# Altium integrated library Lattice ispXPGA.IntLib: 128 symbols (part 7 of 40)
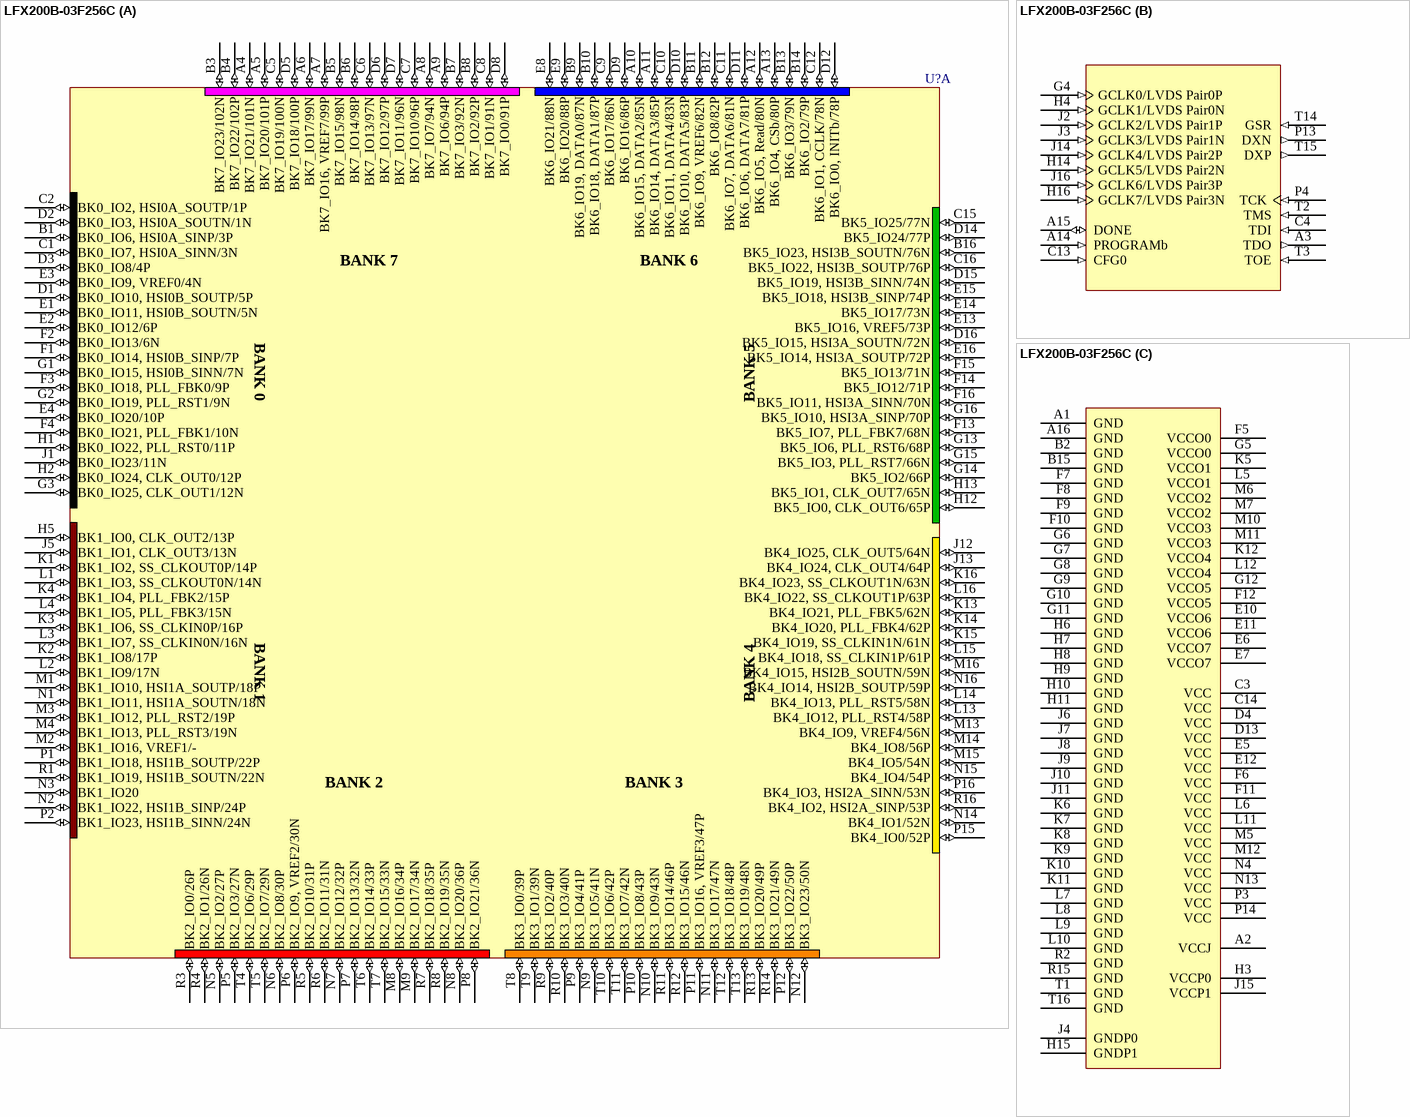
[diagram p405: symbol LFX200B-03F256C]

## LFX200B-03F256C
designator U?
LFX200 Non-Volatile Infinitely-Reconfigurable: 2.5/3.3V FPGA, 160 User I/Os, 256-Ball fpBGA, Speed Grade 3, Commercial Grade; Note: All GND pins must be electrically connected at the board level.; Note: Pins M2 and N3 are not available for differential pairs.; Published: 17-Dec-2003; LatestRevisionDate: 13-Apr-2006; LatestRevisionNote: IPC-7351 Footprint Added.; DatasheetVersion: xpga_09, Jul-2004; PackageVersion: pkg_32, Aug-2005; PackageReference: fpBGA256; Publisher: Altium Limited; PackageDescription: 256-Ball Fine Pitch Ball Grid Array (fpBGA256); Code_IPC: BGA100P16X16-256; ComponentLink1Description: Manufacturer Link; ComponentLink1URL: http://www.latticesemi.com/products/fpga/xpga/index.cfm; ComponentLink2Description: Datasheet; ComponentLink2URL: http://www.latticesemi.com/account/_download.cfm?AMID=5010; ComponentLink3Description: Lattice Login; ComponentLink3URL: http://www.latticesemi.com/account/login.cfm
footprint fpBGA256 (BGA, 256-Leads, Body 17x17mm, Pitch 1mm)
3D model LFX200-fpBGA256 (256-Ball Fine Pitch Ball Grid Array (fpBGA256))
part A pins: A4 BK7_IO21/101N (io), A5 BK7_IO20/101P (io), A6 BK7_IO17/99N (io), A7 BK7_IO16, VREF7/99P (io), A8 BK7_IO7/94N (io), A9 BK7_IO6/94P (io), A10 BK6_IO15, DATA2/85N (io), A11 BK6_IO14, DATA3/85P (io), A12 BK6_IO5, Read/80N (io), A13 BK6_IO4, CSb/80P (io), B1 BK0_IO6, HSI0A_SINP/3P (io), B3 BK7_IO23/102N (io), B4 BK7_IO22/102P (io), B5 BK7_IO15/98N (io), B6 BK7_IO14/98P (io), B7 BK7_IO3/92N (io), B8 BK7_IO2/92P (io), B9 BK6_IO19, DATA0/87N (io), B10 BK6_IO18, DATA1/87P (io), B11 BK6_IO9, VREF6/82N (io), B12 BK6_IO8/82P (io), B13 BK6_IO3/79N (io), B14 BK6_IO2/79P (io), B16 BK5_IO23, HSI3B_SOUTN/76N (io), C1 BK0_IO7, HSI0A_SINN/3N (io), C2 BK0_IO2, HSI0A_SOUTP/1P (io), C5 BK7_IO19/100N (io), C6 BK7_IO13/97N (io), C7 BK7_IO10/96P (io), C8 BK7_IO1/91N (io), C9 BK6_IO17/86N (io), C10 BK6_IO11, DATA4/83N (io), C11 BK6_IO7, DATA6/81N (io), C12 BK6_IO1, CCLK/78N (io), C15 BK5_IO25/77N (io), C16 BK5_IO22, HSI3B_SOUTP/76P (io), D1 BK0_IO10, HSI0B_SOUTP/5P (io), D2 BK0_IO3, HSI0A_SOUTN/1N (io), D3 BK0_IO8/4P (io), D5 BK7_IO18/100P (io), D6 BK7_IO12/97P (io), D7 BK7_IO11/96N (io), D8 BK7_IO0/91P (io), D9 BK6_IO16/86P (io), D10 BK6_IO10, DATA5/83P (io), D11 BK6_IO6, DATA7/81P (io), D12 BK6_IO0, INITb/78P (io), D14 BK5_IO24/77P (io), D15 BK5_IO19, HSI3B_SINN/74N (io), D16 BK5_IO15, HSI3A_SOUTN/72N (io), E1 BK0_IO11, HSI0B_SOUTN/5N (io), E2 BK0_IO12/6P (io), E3 BK0_IO9, VREF0/4N (io), E4 BK0_IO20/10P (io), E8 BK6_IO21/88N (io), E9 BK6_IO20/88P (io), E13 BK5_IO16, VREF5/73P (io), E14 BK5_IO17/73N (io), E15 BK5_IO18, HSI3B_SINP/74P (io), E16 BK5_IO14, HSI3A_SOUTP/72P (io), F1 BK0_IO14, HSI0B_SINP/7P (io), F2 BK0_IO13/6N (io), F3 BK0_IO18, PLL_FBK0/9P (io), F4 BK0_IO21, PLL_FBK1/10N (io), F13 BK5_IO7, PLL_FBK7/68N (io), F14 BK5_IO12/71P (io), F15 BK5_IO13/71N (io), F16 BK5_IO11, HSI3A_SINN/70N (io), G1 BK0_IO15, HSI0B_SINN/7N (io), G2 BK0_IO19, PLL_RST1/9N (io), G3 BK0_IO25, CLK_OUT1/12N (io), G13 BK5_IO6, PLL_RST6/68P (io), G14 BK5_IO2/66P (io), G15 BK5_IO3, PLL_RST7/66N (io), G16 BK5_IO10, HSI3A_SINP/70P (io), H1 BK0_IO22, PLL_RST0/11P (io), H2 BK0_IO24, CLK_OUT0/12P (io), H5 BK1_IO0, CLK_OUT2/13P (io), H12 BK5_IO0, CLK_OUT6/65P (io), H13 BK5_IO1, CLK_OUT7/65N (io), J1 BK0_IO23/11N (io), J5 BK1_IO1, CLK_OUT3/13N (io), J12 BK4_IO25, CLK_OUT5/64N (io), J13 BK4_IO24, CLK_OUT4/64P (io), K1 BK1_IO2, SS_CLKOUT0P/14P (io), K2 BK1_IO8/17P (io), K3 BK1_IO6, SS_CLKIN0P/16P (io), K4 BK1_IO4, PLL_FBK2/15P (io), K13 BK4_IO21, PLL_FBK5/62N (io), K14 BK4_IO20, PLL_FBK4/62P (io), K15 BK4_IO19, SS_CLKIN1N/61N (io), K16 BK4_IO23, SS_CLKOUT1N/63N (io), L1 BK1_IO3, SS_CLKOUT0N/14N (io), L2 BK1_IO9/17N (io), L3 BK1_IO7, SS_CLKIN0N/16N (io), L4 BK1_IO5, PLL_FBK3/15N (io), L13 BK4_IO12, PLL_RST4/58P (io), L14 BK4_IO13, PLL_RST5/58N (io), L15 BK4_IO18, SS_CLKIN1P/61P (io), L16 BK4_IO22, SS_CLKOUT1P/63P (io), M1 BK1_IO10, HSI1A_SOUTP/18P (io), M2 BK1_IO16, VREF1/- (io), M3 BK1_IO12, PLL_RST2/19P (io), M4 BK1_IO13, PLL_RST3/19N (io), M8 BK2_IO16/34P (io), M9 BK2_IO17/34N (io), M13 BK4_IO9, VREF4/56N (io), M14 BK4_IO8/56P (io), M15 BK4_IO5/54N (io), M16 BK4_IO15, HSI2B_SOUTN/59N (io), N1 BK1_IO11, HSI1A_SOUTN/18N (io), N2 BK1_IO22, HSI1B_SINP/24P (io), N3 BK1_IO20 (io), N5 BK2_IO2/27P (io), N6 BK2_IO8/30P (io), N7 BK2_IO12/32P (io), N8 BK2_IO20/36P (io), N9 BK3_IO5/41N (io), N10 BK3_IO9/43N (io), N11 BK3_IO17/47N (io), N12 BK3_IO23/50N (io), N14 BK4_IO1/52N (io), N15 BK4_IO4/54P (io), N16 BK4_IO14, HSI2B_SOUTP/59P (io), P1 BK1_IO18, HSI1B_SOUTP/22P (io), P2 BK1_IO23, HSI1B_SINN/24N (io), P5 BK2_IO3/27N (io), P6 BK2_IO9, VREF2/30N (io), P7 BK2_IO13/32N (io), P8 BK2_IO21/36N (io), P9 BK3_IO4/41P (io), P10 BK3_IO8/43P (io), P11 BK3_IO16, VREF3/47P (io), P12 BK3_IO22/50P (io), P15 BK4_IO0/52P (io), P16 BK4_IO3, HSI2A_SINN/53N (io), R1 BK1_IO19, HSI1B_SOUTN/22N (io), R3 BK2_IO0/26P (io), R4 BK2_IO1/26N (io), R5 BK2_IO10/31P (io), R6 BK2_IO11/31N (io), R7 BK2_IO18/35P (io), R8 BK2_IO19/35N (io), R9 BK3_IO2/40P (io), R10 BK3_IO3/40N (io), R11 BK3_IO14/46P (io), R12 BK3_IO15/46N (io), R13 BK3_IO20/49P (io), R14 BK3_IO21/49N (io), R16 BK4_IO2, HSI2A_SINP/53P (io), T4 BK2_IO6/29P (io), T5 BK2_IO7/29N (io), T6 BK2_IO14/33P (io), T7 BK2_IO15/33N (io), T8 BK3_IO0/39P (io), T9 BK3_IO1/39N (io), T10 BK3_IO6/42P (io), T11 BK3_IO7/42N (io), T12 BK3_IO18/48P (io), T13 BK3_IO19/48N (io)
part B pins: A3 TDO (out), A14 PROGRAMb (in), A15 DONE (io), C4 TDI (in), C13 CFG0 (in), G4 GCLK0/LVDS Pair0P (in), H4 GCLK1/LVDS Pair0N (in), H14 GCLK5/LVDS Pair2N (in), H16 GCLK7/LVDS Pair3N (in), J2 GCLK2/LVDS Pair1P (in), J3 GCLK3/LVDS Pair1N (in), J14 GCLK4/LVDS Pair2P (in), J16 GCLK6/LVDS Pair3P (in), P4 TCK (in), P13 DXN (out), T2 TMS (in), T3 TOE (in), T14 GSR (in), T15 DXP (out)
part C pins: A1 GND (power), A2 VCCJ (power), A16 GND (power), B2 GND (power), B15 GND (power), C3 VCC (power), C14 VCC (power), D4 VCC (power), D13 VCC (power), E5 VCC (power), E6 VCCO7 (power), E7 VCCO7 (power), E10 VCCO6 (power), E11 VCCO6 (power), E12 VCC (power), F5 VCCO0 (power), F6 VCC (power), F7 GND (power), F8 GND (power), F9 GND (power), F10 GND (power), F11 VCC (power), F12 VCCO5 (power), G5 VCCO0 (power), G6 GND (power), G7 GND (power), G8 GND (power), G9 GND (power), G10 GND (power), G11 GND (power), G12 VCCO5 (power), H3 VCCP0 (power), H6 GND (power), H7 GND (power), H8 GND (power), H9 GND (power), H10 GND (power), H11 GND (power), H15 GNDP1 (power), J4 GNDP0 (power), J6 GND (power), J7 GND (power), J8 GND (power), J9 GND (power), J10 GND (power), J11 GND (power), J15 VCCP1 (power), K5 VCCO1 (power), K6 GND (power), K7 GND (power), K8 GND (power), K9 GND (power), K10 GND (power), K11 GND (power), K12 VCCO4 (power), L5 VCCO1 (power), L6 VCC (power), L7 GND (power), L8 GND (power), L9 GND (power), L10 GND (power), L11 VCC (power), L12 VCCO4 (power), M5 VCC (power), M6 VCCO2 (power), M7 VCCO2 (power), M10 VCCO3 (power), M11 VCCO3 (power), M12 VCC (power), N4 VCC (power), N13 VCC (power), P3 VCC (power), P14 VCC (power), R2 GND (power), R15 GND (power), T1 GND (power), T16 GND (power)
part A text: BANK 7; BANK 6; BANK 0; BANK 5; BANK 1; BANK 4; BANK 2; BANK 3

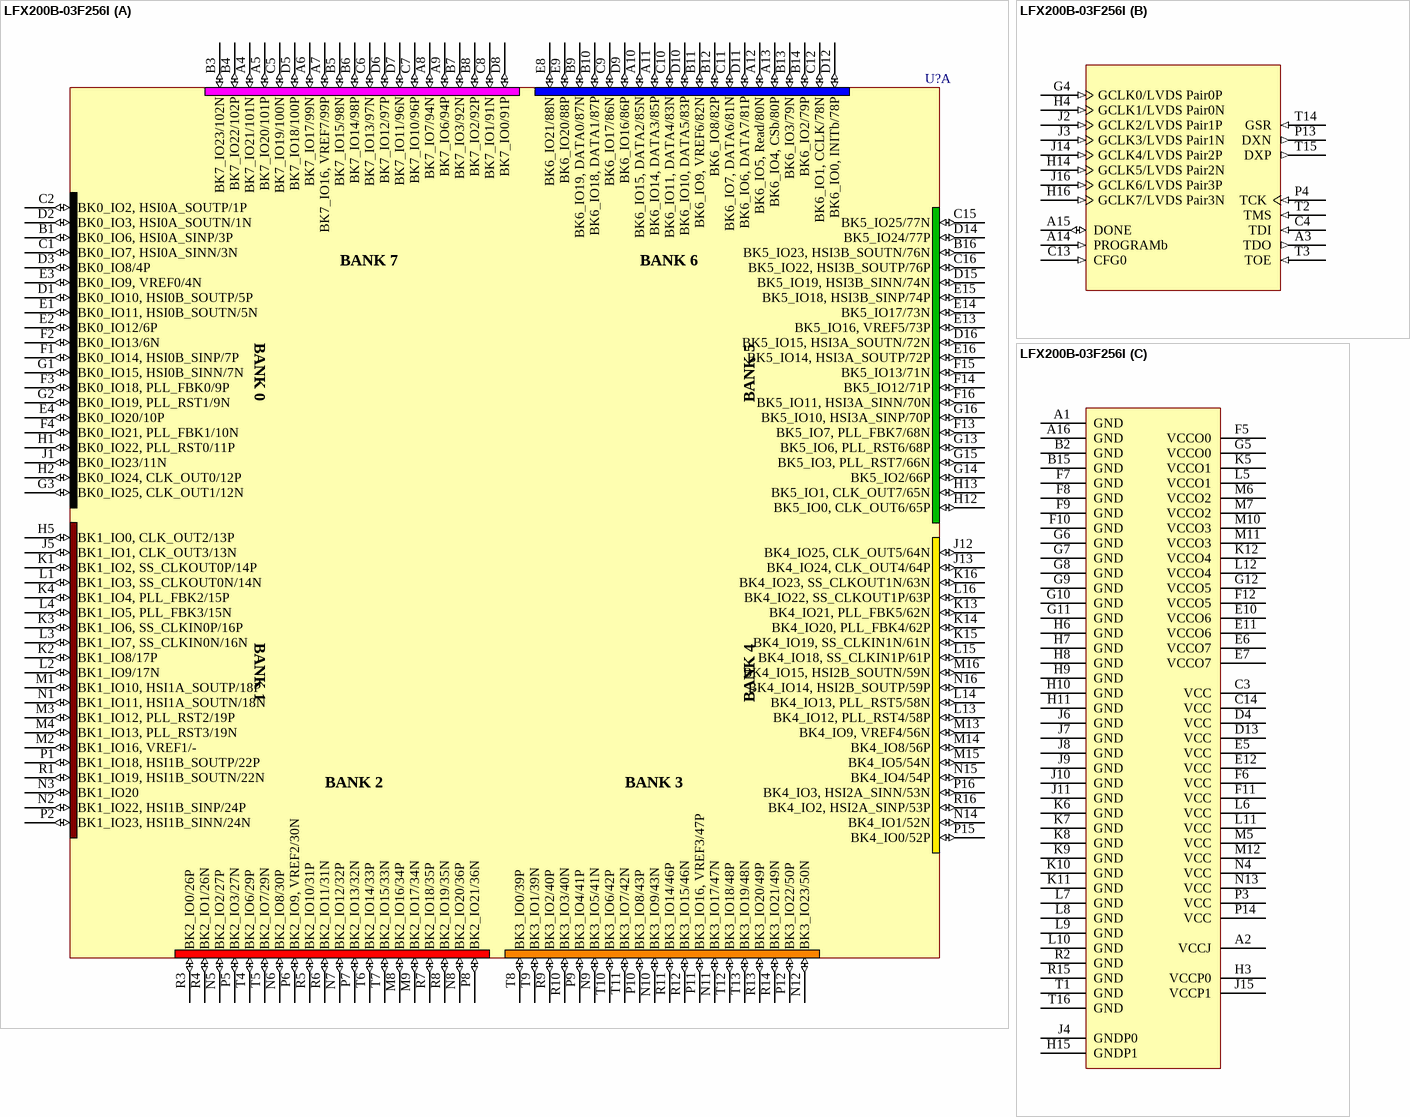
[diagram p65: symbol LFX200B-03F256I]

## LFX200B-03F256I
designator U?
LFX200 Non-Volatile Infinitely-Reconfigurable: 2.5/3.3V FPGA, 160 User I/Os, 256-Ball fpBGA, Speed Grade 3, Industrial Grade; Note: All GND pins must be electrically connected at the board level.; Note: Pins M2 and N3 are not available for differential pairs.; Published: 17-Dec-2003; LatestRevisionDate: 13-Apr-2006; LatestRevisionNote: IPC-7351 Footprint Added.; DatasheetVersion: xpga_07, Sep-2003; PackageVersion: pkg_32, Aug-2005; PackageReference: fpBGA256; Publisher: Altium Limited; PackageDescription: 256-Ball Fine Pitch Ball Grid Array (fpBGA256); Code_IPC: BGA100P16X16-256; ComponentLink1Description: Manufacturer Link; ComponentLink1URL: http://www.latticesemi.com/products/fpga/xpga/index.cfm; ComponentLink2Description: Datasheet; ComponentLink2URL: http://www.latticesemi.com/account/_download.cfm?AMID=5010; ComponentLink3Description: Lattice Login; ComponentLink3URL: http://www.latticesemi.com/account/login.cfm
footprint fpBGA256 (BGA, 256-Leads, Body 17x17mm, Pitch 1mm)
3D model LFX200-fpBGA256 (256-Ball Fine Pitch Ball Grid Array (fpBGA256))
part A pins: A4 BK7_IO21/101N (io), A5 BK7_IO20/101P (io), A6 BK7_IO17/99N (io), A7 BK7_IO16, VREF7/99P (io), A8 BK7_IO7/94N (io), A9 BK7_IO6/94P (io), A10 BK6_IO15, DATA2/85N (io), A11 BK6_IO14, DATA3/85P (io), A12 BK6_IO5, Read/80N (io), A13 BK6_IO4, CSb/80P (io), B1 BK0_IO6, HSI0A_SINP/3P (io), B3 BK7_IO23/102N (io), B4 BK7_IO22/102P (io), B5 BK7_IO15/98N (io), B6 BK7_IO14/98P (io), B7 BK7_IO3/92N (io), B8 BK7_IO2/92P (io), B9 BK6_IO19, DATA0/87N (io), B10 BK6_IO18, DATA1/87P (io), B11 BK6_IO9, VREF6/82N (io), B12 BK6_IO8/82P (io), B13 BK6_IO3/79N (io), B14 BK6_IO2/79P (io), B16 BK5_IO23, HSI3B_SOUTN/76N (io), C1 BK0_IO7, HSI0A_SINN/3N (io), C2 BK0_IO2, HSI0A_SOUTP/1P (io), C5 BK7_IO19/100N (io), C6 BK7_IO13/97N (io), C7 BK7_IO10/96P (io), C8 BK7_IO1/91N (io), C9 BK6_IO17/86N (io), C10 BK6_IO11, DATA4/83N (io), C11 BK6_IO7, DATA6/81N (io), C12 BK6_IO1, CCLK/78N (io), C15 BK5_IO25/77N (io), C16 BK5_IO22, HSI3B_SOUTP/76P (io), D1 BK0_IO10, HSI0B_SOUTP/5P (io), D2 BK0_IO3, HSI0A_SOUTN/1N (io), D3 BK0_IO8/4P (io), D5 BK7_IO18/100P (io), D6 BK7_IO12/97P (io), D7 BK7_IO11/96N (io), D8 BK7_IO0/91P (io), D9 BK6_IO16/86P (io), D10 BK6_IO10, DATA5/83P (io), D11 BK6_IO6, DATA7/81P (io), D12 BK6_IO0, INITb/78P (io), D14 BK5_IO24/77P (io), D15 BK5_IO19, HSI3B_SINN/74N (io), D16 BK5_IO15, HSI3A_SOUTN/72N (io), E1 BK0_IO11, HSI0B_SOUTN/5N (io), E2 BK0_IO12/6P (io), E3 BK0_IO9, VREF0/4N (io), E4 BK0_IO20/10P (io), E8 BK6_IO21/88N (io), E9 BK6_IO20/88P (io), E13 BK5_IO16, VREF5/73P (io), E14 BK5_IO17/73N (io), E15 BK5_IO18, HSI3B_SINP/74P (io), E16 BK5_IO14, HSI3A_SOUTP/72P (io), F1 BK0_IO14, HSI0B_SINP/7P (io), F2 BK0_IO13/6N (io), F3 BK0_IO18, PLL_FBK0/9P (io), F4 BK0_IO21, PLL_FBK1/10N (io), F13 BK5_IO7, PLL_FBK7/68N (io), F14 BK5_IO12/71P (io), F15 BK5_IO13/71N (io), F16 BK5_IO11, HSI3A_SINN/70N (io), G1 BK0_IO15, HSI0B_SINN/7N (io), G2 BK0_IO19, PLL_RST1/9N (io), G3 BK0_IO25, CLK_OUT1/12N (io), G13 BK5_IO6, PLL_RST6/68P (io), G14 BK5_IO2/66P (io), G15 BK5_IO3, PLL_RST7/66N (io), G16 BK5_IO10, HSI3A_SINP/70P (io), H1 BK0_IO22, PLL_RST0/11P (io), H2 BK0_IO24, CLK_OUT0/12P (io), H5 BK1_IO0, CLK_OUT2/13P (io), H12 BK5_IO0, CLK_OUT6/65P (io), H13 BK5_IO1, CLK_OUT7/65N (io), J1 BK0_IO23/11N (io), J5 BK1_IO1, CLK_OUT3/13N (io), J12 BK4_IO25, CLK_OUT5/64N (io), J13 BK4_IO24, CLK_OUT4/64P (io), K1 BK1_IO2, SS_CLKOUT0P/14P (io), K2 BK1_IO8/17P (io), K3 BK1_IO6, SS_CLKIN0P/16P (io), K4 BK1_IO4, PLL_FBK2/15P (io), K13 BK4_IO21, PLL_FBK5/62N (io), K14 BK4_IO20, PLL_FBK4/62P (io), K15 BK4_IO19, SS_CLKIN1N/61N (io), K16 BK4_IO23, SS_CLKOUT1N/63N (io), L1 BK1_IO3, SS_CLKOUT0N/14N (io), L2 BK1_IO9/17N (io), L3 BK1_IO7, SS_CLKIN0N/16N (io), L4 BK1_IO5, PLL_FBK3/15N (io), L13 BK4_IO12, PLL_RST4/58P (io), L14 BK4_IO13, PLL_RST5/58N (io), L15 BK4_IO18, SS_CLKIN1P/61P (io), L16 BK4_IO22, SS_CLKOUT1P/63P (io), M1 BK1_IO10, HSI1A_SOUTP/18P (io), M2 BK1_IO16, VREF1/- (io), M3 BK1_IO12, PLL_RST2/19P (io), M4 BK1_IO13, PLL_RST3/19N (io), M8 BK2_IO16/34P (io), M9 BK2_IO17/34N (io), M13 BK4_IO9, VREF4/56N (io), M14 BK4_IO8/56P (io), M15 BK4_IO5/54N (io), M16 BK4_IO15, HSI2B_SOUTN/59N (io), N1 BK1_IO11, HSI1A_SOUTN/18N (io), N2 BK1_IO22, HSI1B_SINP/24P (io), N3 BK1_IO20 (io), N5 BK2_IO2/27P (io), N6 BK2_IO8/30P (io), N7 BK2_IO12/32P (io), N8 BK2_IO20/36P (io), N9 BK3_IO5/41N (io), N10 BK3_IO9/43N (io), N11 BK3_IO17/47N (io), N12 BK3_IO23/50N (io), N14 BK4_IO1/52N (io), N15 BK4_IO4/54P (io), N16 BK4_IO14, HSI2B_SOUTP/59P (io), P1 BK1_IO18, HSI1B_SOUTP/22P (io), P2 BK1_IO23, HSI1B_SINN/24N (io), P5 BK2_IO3/27N (io), P6 BK2_IO9, VREF2/30N (io), P7 BK2_IO13/32N (io), P8 BK2_IO21/36N (io), P9 BK3_IO4/41P (io), P10 BK3_IO8/43P (io), P11 BK3_IO16, VREF3/47P (io), P12 BK3_IO22/50P (io), P15 BK4_IO0/52P (io), P16 BK4_IO3, HSI2A_SINN/53N (io), R1 BK1_IO19, HSI1B_SOUTN/22N (io), R3 BK2_IO0/26P (io), R4 BK2_IO1/26N (io), R5 BK2_IO10/31P (io), R6 BK2_IO11/31N (io), R7 BK2_IO18/35P (io), R8 BK2_IO19/35N (io), R9 BK3_IO2/40P (io), R10 BK3_IO3/40N (io), R11 BK3_IO14/46P (io), R12 BK3_IO15/46N (io), R13 BK3_IO20/49P (io), R14 BK3_IO21/49N (io), R16 BK4_IO2, HSI2A_SINP/53P (io), T4 BK2_IO6/29P (io), T5 BK2_IO7/29N (io), T6 BK2_IO14/33P (io), T7 BK2_IO15/33N (io), T8 BK3_IO0/39P (io), T9 BK3_IO1/39N (io), T10 BK3_IO6/42P (io), T11 BK3_IO7/42N (io), T12 BK3_IO18/48P (io), T13 BK3_IO19/48N (io)
part B pins: A3 TDO (out), A14 PROGRAMb (in), A15 DONE (io), C4 TDI (in), C13 CFG0 (in), G4 GCLK0/LVDS Pair0P (in), H4 GCLK1/LVDS Pair0N (in), H14 GCLK5/LVDS Pair2N (in), H16 GCLK7/LVDS Pair3N (in), J2 GCLK2/LVDS Pair1P (in), J3 GCLK3/LVDS Pair1N (in), J14 GCLK4/LVDS Pair2P (in), J16 GCLK6/LVDS Pair3P (in), P4 TCK (in), P13 DXN (out), T2 TMS (in), T3 TOE (in), T14 GSR (in), T15 DXP (out)
part C pins: A1 GND (power), A2 VCCJ (power), A16 GND (power), B2 GND (power), B15 GND (power), C3 VCC (power), C14 VCC (power), D4 VCC (power), D13 VCC (power), E5 VCC (power), E6 VCCO7 (power), E7 VCCO7 (power), E10 VCCO6 (power), E11 VCCO6 (power), E12 VCC (power), F5 VCCO0 (power), F6 VCC (power), F7 GND (power), F8 GND (power), F9 GND (power), F10 GND (power), F11 VCC (power), F12 VCCO5 (power), G5 VCCO0 (power), G6 GND (power), G7 GND (power), G8 GND (power), G9 GND (power), G10 GND (power), G11 GND (power), G12 VCCO5 (power), H3 VCCP0 (power), H6 GND (power), H7 GND (power), H8 GND (power), H9 GND (power), H10 GND (power), H11 GND (power), H15 GNDP1 (power), J4 GNDP0 (power), J6 GND (power), J7 GND (power), J8 GND (power), J9 GND (power), J10 GND (power), J11 GND (power), J15 VCCP1 (power), K5 VCCO1 (power), K6 GND (power), K7 GND (power), K8 GND (power), K9 GND (power), K10 GND (power), K11 GND (power), K12 VCCO4 (power), L5 VCCO1 (power), L6 VCC (power), L7 GND (power), L8 GND (power), L9 GND (power), L10 GND (power), L11 VCC (power), L12 VCCO4 (power), M5 VCC (power), M6 VCCO2 (power), M7 VCCO2 (power), M10 VCCO3 (power), M11 VCCO3 (power), M12 VCC (power), N4 VCC (power), N13 VCC (power), P3 VCC (power), P14 VCC (power), R2 GND (power), R15 GND (power), T1 GND (power), T16 GND (power)
part A text: BANK 7; BANK 6; BANK 0; BANK 5; BANK 1; BANK 4; BANK 2; BANK 3

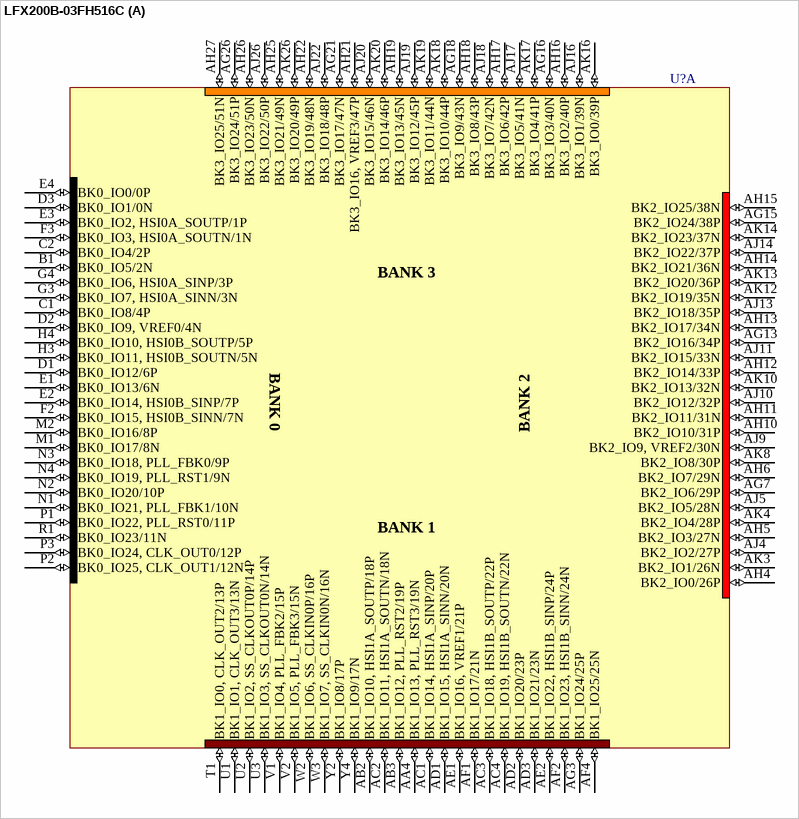
[diagram p66: symbol LFX200B-03FH516C]

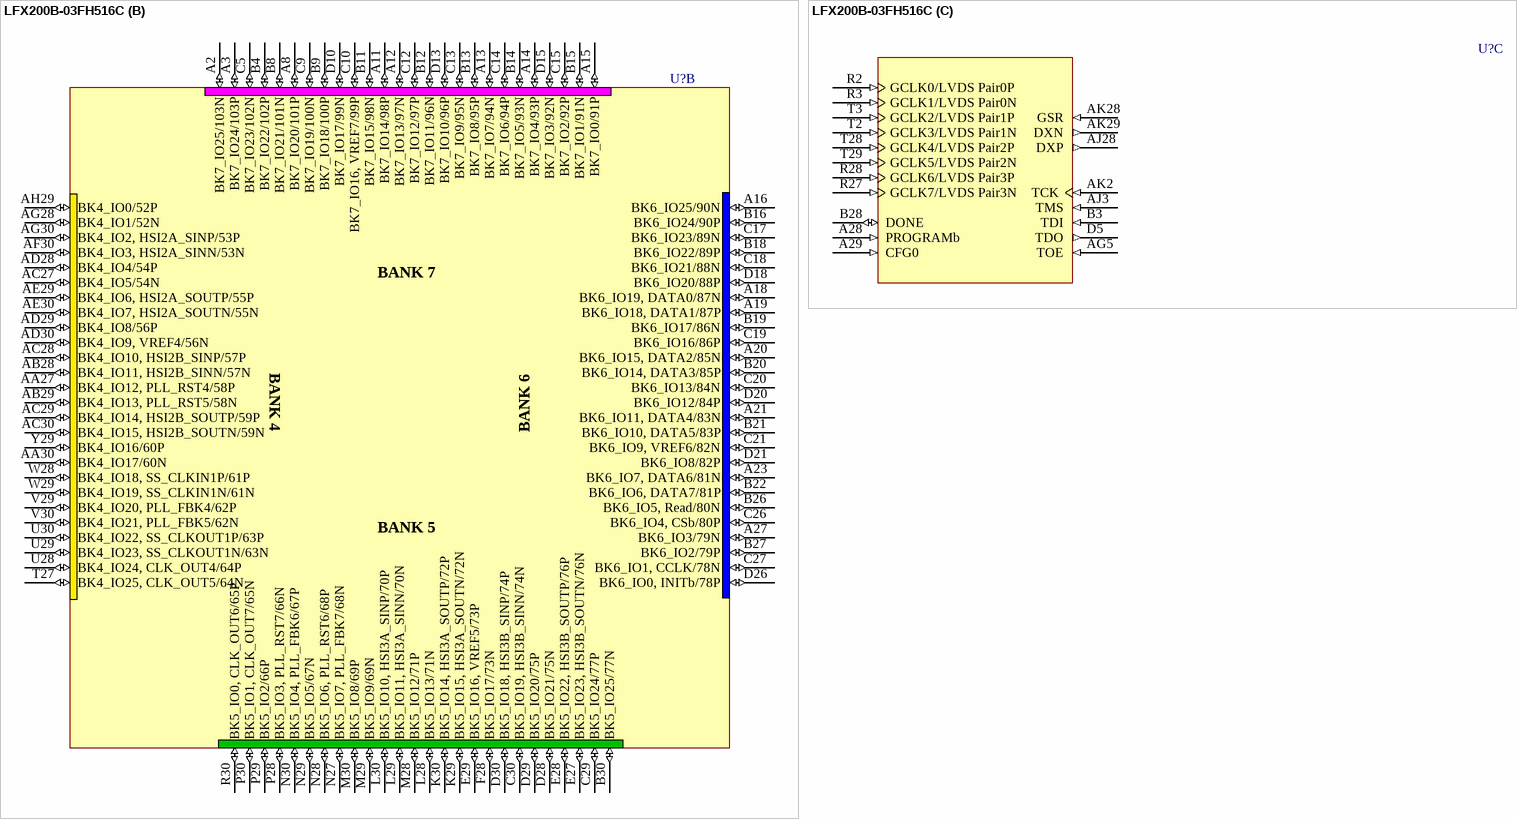
[diagram p67: symbol LFX200B-03FH516C]

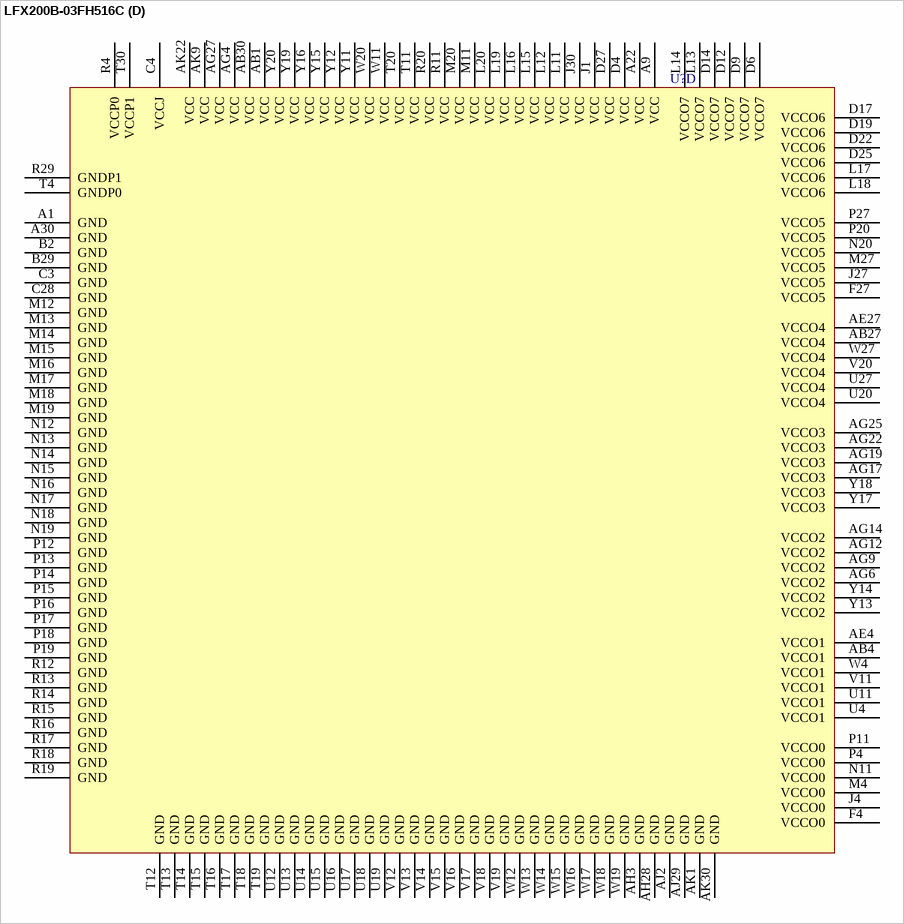
[diagram p68: symbol LFX200B-03FH516C]

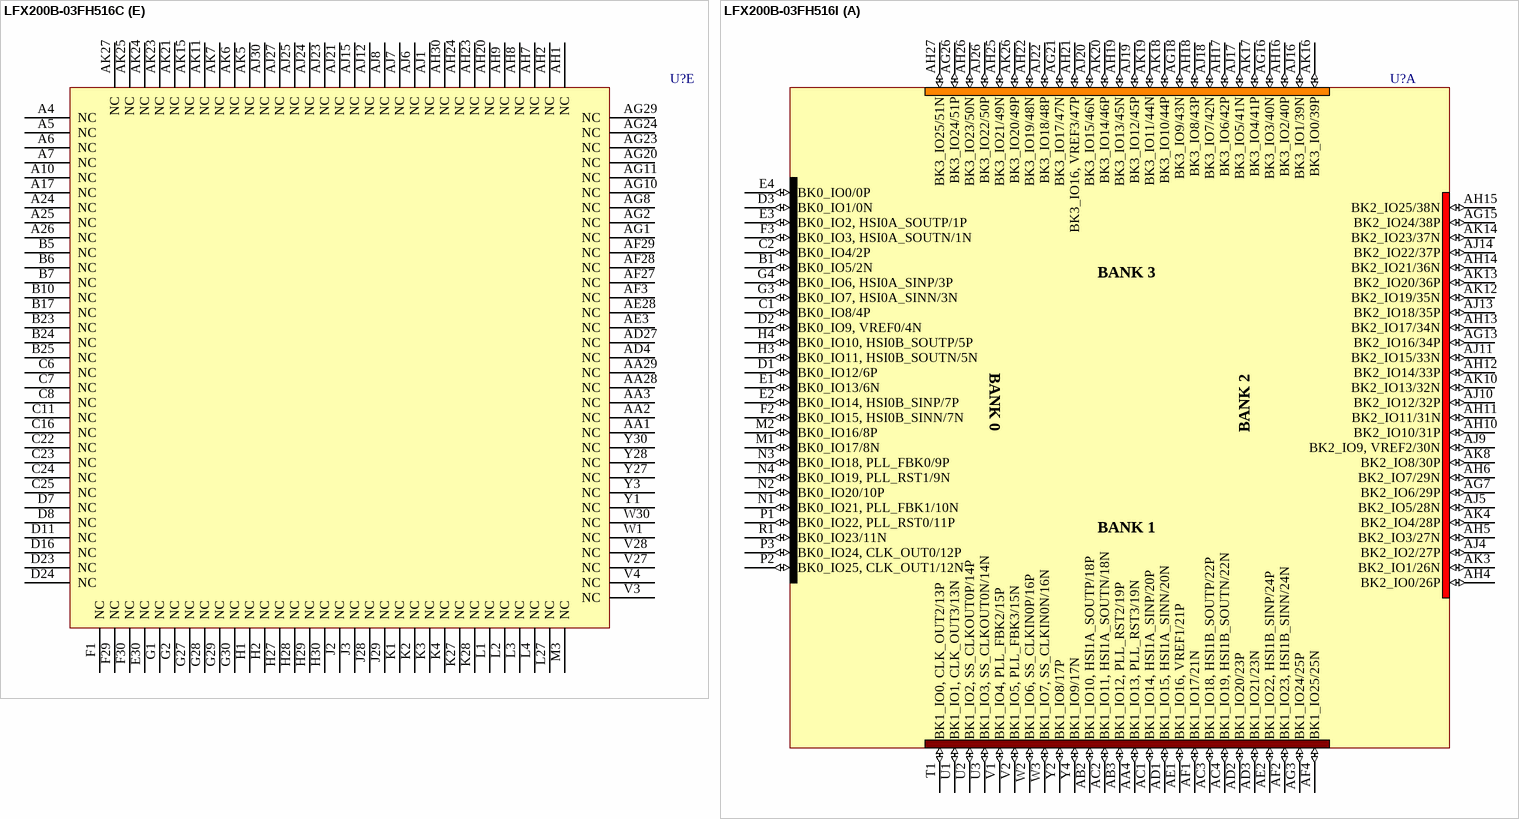
[diagram p69: symbols LFX200B-03FH516C to LFX200B-03FH516I]

## LFX200B-03FH516C
designator U?
LFX200 Non-Volatile Infinitely-Reconfigurable: 2.5/3.3V FPGA, 208 User I/Os, 516-Ball fpBGA, Speed Grade 3, Commercial Grade; Note: All GND pins must be electrically connected at the board level.; DoNotConnect: NC pins to any active signals, VCC or GND.; Published: 17-Dec-2003; LatestRevisionDate: 13-Apr-2006; LatestRevisionNote: IPC-7351 Footprint Added.; DatasheetVersion: xpga_09, Jul-2004; PackageVersion: pkg_32, Aug-2005; PackageReference: fpBGA516; Publisher: Altium Limited; PackageDescription: 516-Ball Fine Pitch Ball Grid Array (fpBGA516); ComponentLink1Description: Manufacturer Link; ComponentLink1URL: http://www.latticesemi.com/products/fpga/xpga/index.cfm; ComponentLink2Description: Datasheet; ComponentLink2URL: http://www.latticesemi.com/account/_download.cfm?AMID=5010; ComponentLink3Description: Lattice Login; ComponentLink3URL: http://www.latticesemi.com/account/login.cfm
footprint fpBGA516 (BGA, 516-Leads, Body 31x31mm, Pitch 1mm)
3D model LFX200-fpBGA516 (516-Ball Fine Pitch Ball Grid Array (fpBGA516))
part A pins: AA4 BK1_IO13, PLL_RST3/19N (io), AB2 BK1_IO10, HSI1A_SOUTP/18P (io), AB3 BK1_IO12, PLL_RST2/19P (io), AC1 BK1_IO14, HSI1A_SINP/20P (io), AC2 BK1_IO11, HSI1A_SOUTN/18N (io), AC3 BK1_IO18, HSI1B_SOUTP/22P (io), AC4 BK1_IO19, HSI1B_SOUTN/22N (io), AD1 BK1_IO15, HSI1A_SINN/20N (io), AD2 BK1_IO20/23P (io), AD3 BK1_IO21/23N (io), AE1 BK1_IO16, VREF1/21P (io), AE2 BK1_IO22, HSI1B_SINP/24P (io), AF1 BK1_IO17/21N (io), AF2 BK1_IO23, HSI1B_SINN/24N (io), AF4 BK1_IO25/25N (io), AG3 BK1_IO24/25P (io), AG7 BK2_IO6/29P (io), AG13 BK2_IO16/34P (io), AG15 BK2_IO24/38P (io), AG16 BK3_IO3/40N (io), AG18 BK3_IO9/43N (io), AG21 BK3_IO17/47N (io), AG26 BK3_IO24/51P (io), AH4 BK2_IO0/26P (io), AH5 BK2_IO3/27N (io), AH6 BK2_IO7/29N (io), AH10 BK2_IO10/31P (io), AH11 BK2_IO11/31N (io), AH12 BK2_IO14/33P (io), AH13 BK2_IO17/34N (io), AH14 BK2_IO21/36N (io), AH15 BK2_IO25/38N (io), AH16 BK3_IO2/40P (io), AH17 BK3_IO6/42P (io), AH18 BK3_IO8/43P (io), AH19 BK3_IO13/45N (io), AH21 BK3_IO16, VREF3/47P (io), AH22 BK3_IO19/48N (io), AH25 BK3_IO21/49N (io), AH26 BK3_IO23/50N (io), AH27 BK3_IO25/51N (io), AJ4 BK2_IO2/27P (io), AJ5 BK2_IO5/28N (io), AJ9 BK2_IO9, VREF2/30N (io), AJ10 BK2_IO12/32P (io), AJ11 BK2_IO15/33N (io), AJ13 BK2_IO18/35P (io), AJ14 BK2_IO22/37P (io), AJ16 BK3_IO1/39N (io), AJ17 BK3_IO5/41N (io), AJ18 BK3_IO7/42N (io), AJ19 BK3_IO12/45P (io), AJ20 BK3_IO15/46N (io), AJ22 BK3_IO18/48P (io), AJ26 BK3_IO22/50P (io), AK3 BK2_IO1/26N (io), AK4 BK2_IO4/28P (io), AK8 BK2_IO8/30P (io), AK10 BK2_IO13/32N (io), AK12 BK2_IO19/35N (io), AK13 BK2_IO20/36P (io), AK14 BK2_IO23/37N (io), AK16 BK3_IO0/39P (io), AK17 BK3_IO4/41P (io), AK18 BK3_IO10/44P (io), AK19 BK3_IO11/44N (io), AK20 BK3_IO14/46P (io), AK26 BK3_IO20/49P (io), B1 BK0_IO5/2N (io), C1 BK0_IO8/4P (io), C2 BK0_IO4/2P (io), D1 BK0_IO12/6P (io), D2 BK0_IO9, VREF0/4N (io), D3 BK0_IO1/0N (io), E1 BK0_IO13/6N (io), E2 BK0_IO14, HSI0B_SINP/7P (io), E3 BK0_IO2, HSI0A_SOUTP/1P (io), E4 BK0_IO0/0P (io), F2 BK0_IO15, HSI0B_SINN/7N (io), F3 BK0_IO3, HSI0A_SOUTN/1N (io), G3 BK0_IO7, HSI0A_SINN/3N (io), G4 BK0_IO6, HSI0A_SINP/3P (io), H3 BK0_IO11, HSI0B_SOUTN/5N (io), H4 BK0_IO10, HSI0B_SOUTP/5P (io), M1 BK0_IO17/8N (io), M2 BK0_IO16/8P (io), N1 BK0_IO21, PLL_FBK1/10N (io), N2 BK0_IO20/10P (io), N3 BK0_IO18, PLL_FBK0/9P (io), N4 BK0_IO19, PLL_RST1/9N (io), P1 BK0_IO22, PLL_RST0/11P (io), P2 BK0_IO25, CLK_OUT1/12N (io), P3 BK0_IO24, CLK_OUT0/12P (io), R1 BK0_IO23/11N (io), T1 BK1_IO0, CLK_OUT2/13P (io), U1 BK1_IO1, CLK_OUT3/13N (io), U2 BK1_IO2, SS_CLKOUT0P/14P (io), U3 BK1_IO3, SS_CLKOUT0N/14N (io), V1 BK1_IO4, PLL_FBK2/15P (io), V2 BK1_IO5, PLL_FBK3/15N (io), W2 BK1_IO6, SS_CLKIN0P/16P (io), W3 BK1_IO7, SS_CLKIN0N/16N (io), Y2 BK1_IO8/17P (io), Y4 BK1_IO9/17N (io)
part B pins: A2 BK7_IO25/103N (io), A3 BK7_IO24/103P (io), A8 BK7_IO20/101P (io), A11 BK7_IO14/98P (io), A12 BK7_IO13/97N (io), A13 BK7_IO7/94N (io), A14 BK7_IO4/93P (io), A15 BK7_IO0/91P (io), A16 BK6_IO25/90N (io), A18 BK6_IO19, DATA0/87N (io), A19 BK6_IO18, DATA1/87P (io), A20 BK6_IO15, DATA2/85N (io), A21 BK6_IO11, DATA4/83N (io), A23 BK6_IO7, DATA6/81N (io), A27 BK6_IO3/79N (io), AA27 BK4_IO12, PLL_RST4/58P (io), AA30 BK4_IO17/60N (io), AB28 BK4_IO11, HSI2B_SINN/57N (io), AB29 BK4_IO13, PLL_RST5/58N (io), AC27 BK4_IO5/54N (io), AC28 BK4_IO10, HSI2B_SINP/57P (io), AC29 BK4_IO14, HSI2B_SOUTP/59P (io), AC30 BK4_IO15, HSI2B_SOUTN/59N (io), AD28 BK4_IO4/54P (io), AD29 BK4_IO8/56P (io), AD30 BK4_IO9, VREF4/56N (io), AE29 BK4_IO6, HSI2A_SOUTP/55P (io), AE30 BK4_IO7, HSI2A_SOUTN/55N (io), AF30 BK4_IO3, HSI2A_SINN/53N (io), AG28 BK4_IO1/52N (io), AG30 BK4_IO2, HSI2A_SINP/53P (io), AH29 BK4_IO0/52P (io), B4 BK7_IO22/102P (io), B8 BK7_IO21/101N (io), B9 BK7_IO18/100P (io), B11 BK7_IO15/98N (io), B12 BK7_IO11/96N (io), B13 BK7_IO8/95P (io), B14 BK7_IO5/93N (io), B15 BK7_IO1/91N (io), B16 BK6_IO24/90P (io), B18 BK6_IO22/89P (io), B19 BK6_IO17/86N (io), B20 BK6_IO14, DATA3/85P (io), B21 BK6_IO10, DATA5/83P (io), B22 BK6_IO6, DATA7/81P (io), B26 BK6_IO5, Read/80N (io), B27 BK6_IO2/79P (io), B30 BK5_IO25/77N (io), C5 BK7_IO23/102N (io), C9 BK7_IO19/100N (io), C10 BK7_IO16, VREF7/99P (io), C12 BK7_IO12/97P (io), C13 BK7_IO9/95N (io), C14 BK7_IO6/94P (io), C15 BK7_IO2/92P (io), C17 BK6_IO23/89N (io), C18 BK6_IO21/88N (io), C19 BK6_IO16/86P (io), C20 BK6_IO13/84N (io), C21 BK6_IO9, VREF6/82N (io), C26 BK6_IO4, CSb/80P (io), C27 BK6_IO1, CCLK/78N (io), C29 BK5_IO24/77P (io), C30 BK5_IO19, HSI3B_SINN/74N (io), D10 BK7_IO17/99N (io), D13 BK7_IO10/96P (io), D15 BK7_IO3/92N (io), D18 BK6_IO20/88P (io), D20 BK6_IO12/84P (io), D21 BK6_IO8/82P (io), D26 BK6_IO0, INITb/78P (io), D28 BK5_IO21/75N (io), D29 BK5_IO20/75P (io), D30 BK5_IO18, HSI3B_SINP/74P (io), E27 BK5_IO23, HSI3B_SOUTN/76N (io), E28 BK5_IO22, HSI3B_SOUTP/76P (io), E29 BK5_IO16, VREF5/73P (io), F28 BK5_IO17/73N (io), K29 BK5_IO15, HSI3A_SOUTN/72N (io), K30 BK5_IO14, HSI3A_SOUTP/72P (io), L28 BK5_IO13/71N (io), L29 BK5_IO11, HSI3A_SINN/70N (io), L30 BK5_IO10, HSI3A_SINP/70P (io), M28 BK5_IO12/71P (io), M29 BK5_IO9/69N (io), M30 BK5_IO8/69P (io), N27 BK5_IO7, PLL_FBK7/68N (io), N28 BK5_IO6, PLL_RST6/68P (io), N29 BK5_IO5/67N (io), N30 BK5_IO4, PLL_FBK6/67P (io), P28 BK5_IO3, PLL_RST7/66N (io), P29 BK5_IO2/66P (io), P30 BK5_IO1, CLK_OUT7/65N (io), R30 BK5_IO0, CLK_OUT6/65P (io), T27 BK4_IO25, CLK_OUT5/64N (io), U28 BK4_IO24, CLK_OUT4/64P (io), U29 BK4_IO23, SS_CLKOUT1N/63N (io), U30 BK4_IO22, SS_CLKOUT1P/63P (io), V29 BK4_IO20, PLL_FBK4/62P (io), V30 BK4_IO21, PLL_FBK5/62N (io), W28 BK4_IO18, SS_CLKIN1P/61P (io), W29 BK4_IO19, SS_CLKIN1N/61N (io), Y29 BK4_IO16/60P (io)
part C pins: A28 PROGRAMb (in), A29 CFG0 (in), AG5 TOE (in), AJ3 TMS (in), AJ28 DXP (out), AK2 TCK (in), AK28 GSR (in), AK29 DXN (out), B3 TDI (in), B28 DONE (io), D5 TDO (out), R2 GCLK0/LVDS Pair0P (in), R3 GCLK1/LVDS Pair0N (in), R27 GCLK7/LVDS Pair3N (in), R28 GCLK6/LVDS Pair3P (in), T2 GCLK3/LVDS Pair1N (in), T3 GCLK2/LVDS Pair1P (in), T28 GCLK4/LVDS Pair2P (in), T29 GCLK5/LVDS Pair2N (in)
part D pins: A1 GND (power), A9 VCC (power), A22 VCC (power), A30 GND (power), AB1 VCC (power), AB4 VCCO1 (power), AB27 VCCO4 (power), AB30 VCC (power), AE4 VCCO1 (power), AE27 VCCO4 (power), AG4 VCC (power), AG6 VCCO2 (power), AG9 VCCO2 (power), AG12 VCCO2 (power), AG14 VCCO2 (power), AG17 VCCO3 (power), AG19 VCCO3 (power), AG22 VCCO3 (power), AG25 VCCO3 (power), AG27 VCC (power), AH3 GND (power), AH28 GND (power), AJ2 GND (power), AJ29 GND (power), AK1 GND (power), AK9 VCC (power), AK22 VCC (power), AK30 GND (power), B2 GND (power), B29 GND (power), C3 GND (power), C4 VCCJ (power), C28 GND (power), D4 VCC (power), D6 VCCO7 (power), D9 VCCO7 (power), D12 VCCO7 (power), D14 VCCO7 (power), D17 VCCO6 (power), D19 VCCO6 (power), D22 VCCO6 (power), D25 VCCO6 (power), D27 VCC (power), F4 VCCO0 (power), F27 VCCO5 (power), J1 VCC (power), J4 VCCO0 (power), J27 VCCO5 (power), J30 VCC (power), L11 VCC (power), L12 VCC (power), L13 VCCO7 (power), L14 VCCO7 (power), L15 VCC (power), L16 VCC (power), L17 VCCO6 (power), L18 VCCO6 (power), L19 VCC (power), L20 VCC (power), M4 VCCO0 (power), M11 VCC (power), M12 GND (power), M13 GND (power), M14 GND (power), M15 GND (power), M16 GND (power), M17 GND (power), M18 GND (power), M19 GND (power), M20 VCC (power), M27 VCCO5 (power), N11 VCCO0 (power), N12 GND (power), N13 GND (power), N14 GND (power), N15 GND (power), N16 GND (power), N17 GND (power), N18 GND (power), N19 GND (power), N20 VCCO5 (power), P4 VCCO0 (power), P11 VCCO0 (power), P12 GND (power), P13 GND (power), P14 GND (power), P15 GND (power), P16 GND (power), P17 GND (power), P18 GND (power), P19 GND (power), P20 VCCO5 (power), P27 VCCO5 (power), R4 VCCP0 (power), R11 VCC (power), R12 GND (power), R13 GND (power), R14 GND (power), R15 GND (power), R16 GND (power), R17 GND (power), R18 GND (power), R19 GND (power), R20 VCC (power), R29 GNDP1 (power), T4 GNDP0 (power), T11 VCC (power), T12 GND (power), T13 GND (power), T14 GND (power), T15 GND (power), T16 GND (power), T17 GND (power), T18 GND (power), T19 GND (power), T20 VCC (power), T30 VCCP1 (power), U4 VCCO1 (power), U11 VCCO1 (power), U12 GND (power), U13 GND (power), U14 GND (power), U15 GND (power), U16 GND (power), U17 GND (power), U18 GND (power), U19 GND (power), U20 VCCO4 (power), U27 VCCO4 (power), V11 VCCO1 (power), V12 GND (power), V13 GND (power), V14 GND (power), V15 GND (power), V16 GND (power), V17 GND (power), V18 GND (power), V19 GND (power), V20 VCCO4 (power), W4 VCCO1 (power), W11 VCC (power), W12 GND (power), W13 GND (power), W14 GND (power), W15 GND (power), W16 GND (power), W17 GND (power), W18 GND (power), W19 GND (power), W20 VCC (power), W27 VCCO4 (power), Y11 VCC (power), Y12 VCC (power), Y13 VCCO2 (power), Y14 VCCO2 (power), Y15 VCC (power), Y16 VCC (power), Y17 VCCO3 (power), Y18 VCCO3 (power), Y19 VCC (power), Y20 VCC (power)
part E pins: A4 NC, A5 NC, A6 NC, A7 NC, A10 NC, A17 NC, A24 NC, A25 NC, A26 NC, AA1 NC, AA2 NC, AA3 NC, AA28 NC, AA29 NC, AD4 NC, AD27 NC, AE3 NC, AE28 NC, AF3 NC, AF27 NC, AF28 NC, AF29 NC, AG1 NC, AG2 NC, AG8 NC, AG10 NC, AG11 NC, AG20 NC, AG23 NC, AG24 NC, AG29 NC, AH1 NC, AH2 NC, AH7 NC, AH8 NC, AH9 NC, AH20 NC, AH23 NC, AH24 NC, AH30 NC, AJ1 NC, AJ6 NC, AJ7 NC, AJ8 NC, AJ12 NC, AJ15 NC, AJ21 NC, AJ23 NC, AJ24 NC, AJ25 NC, AJ27 NC, AJ30 NC, AK5 NC, AK6 NC, AK7 NC, AK11 NC, AK15 NC, AK21 NC, AK23 NC, AK24 NC, AK25 NC, AK27 NC, B5 NC, B6 NC, B7 NC, B10 NC, B17 NC, B23 NC, B24 NC, B25 NC, C6 NC, C7 NC, C8 NC, C11 NC, C16 NC, C22 NC, C23 NC, C24 NC, C25 NC, D7 NC, D8 NC, D11 NC, D16 NC, D23 NC, D24 NC, E30 NC, F1 NC, F29 NC, F30 NC, G1 NC, G2 NC, G27 NC, G28 NC, G29 NC, G30 NC, H1 NC, H2 NC, H27 NC, H28 NC, H29 NC, H30 NC, J2 NC, J3 NC, J28 NC, J29 NC, K1 NC, K2 NC, K3 NC, K4 NC, K27 NC, K28 NC, L1 NC, L2 NC, L3 NC, L4 NC, L27 NC, M3 NC, V3 NC, V4 NC, V27 NC, V28 NC, W1 NC, W30 NC, Y1 NC, Y3 NC, Y27 NC, Y28 NC, Y30 NC
part A text: BANK 3; BANK 0; BANK 2; BANK 1
part B text: BANK 7; BANK 4; BANK 6; BANK 5

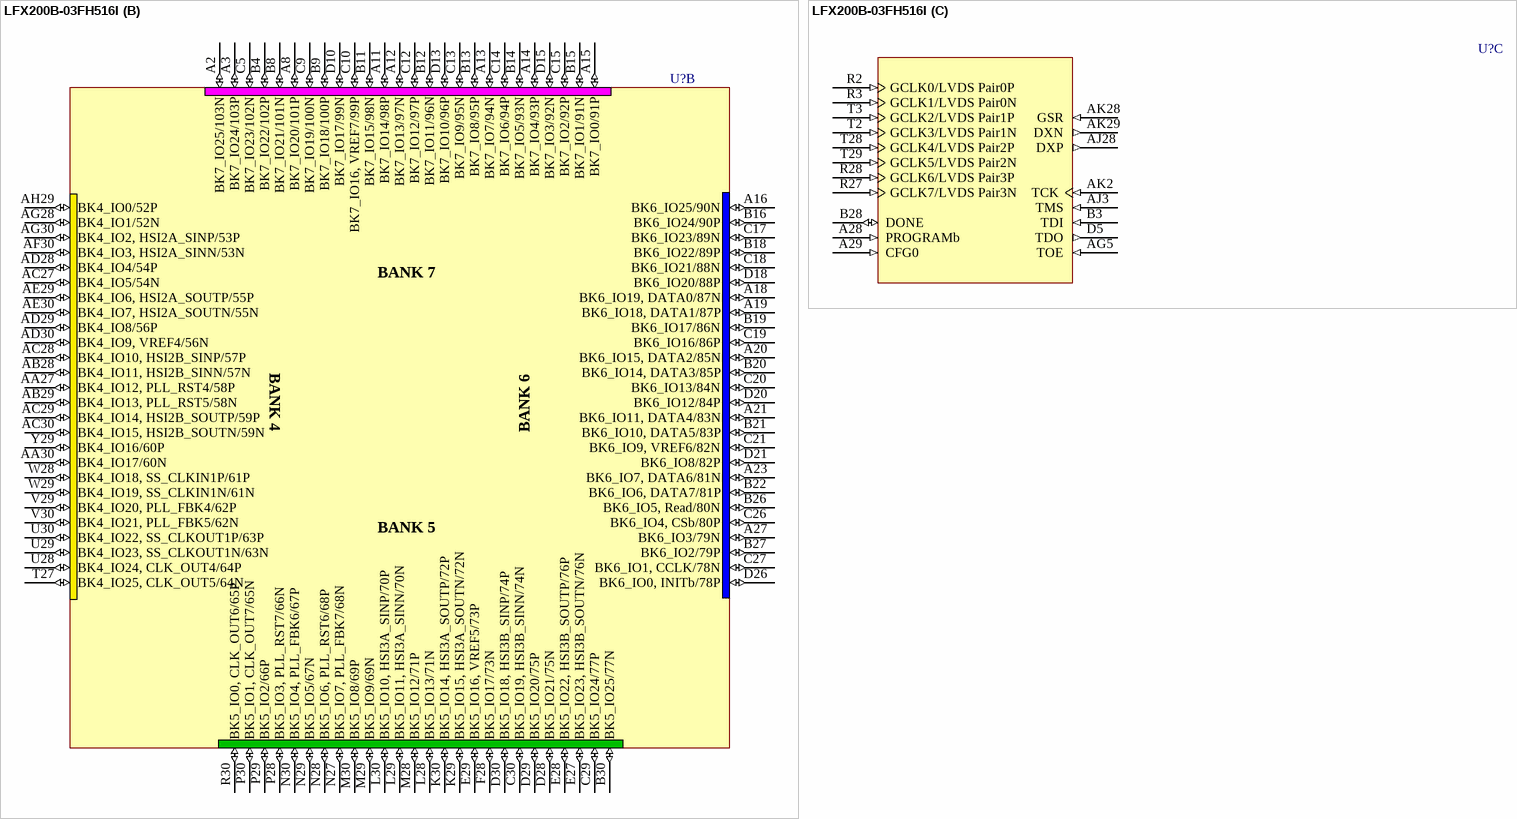
[diagram p70: symbol LFX200B-03FH516I]

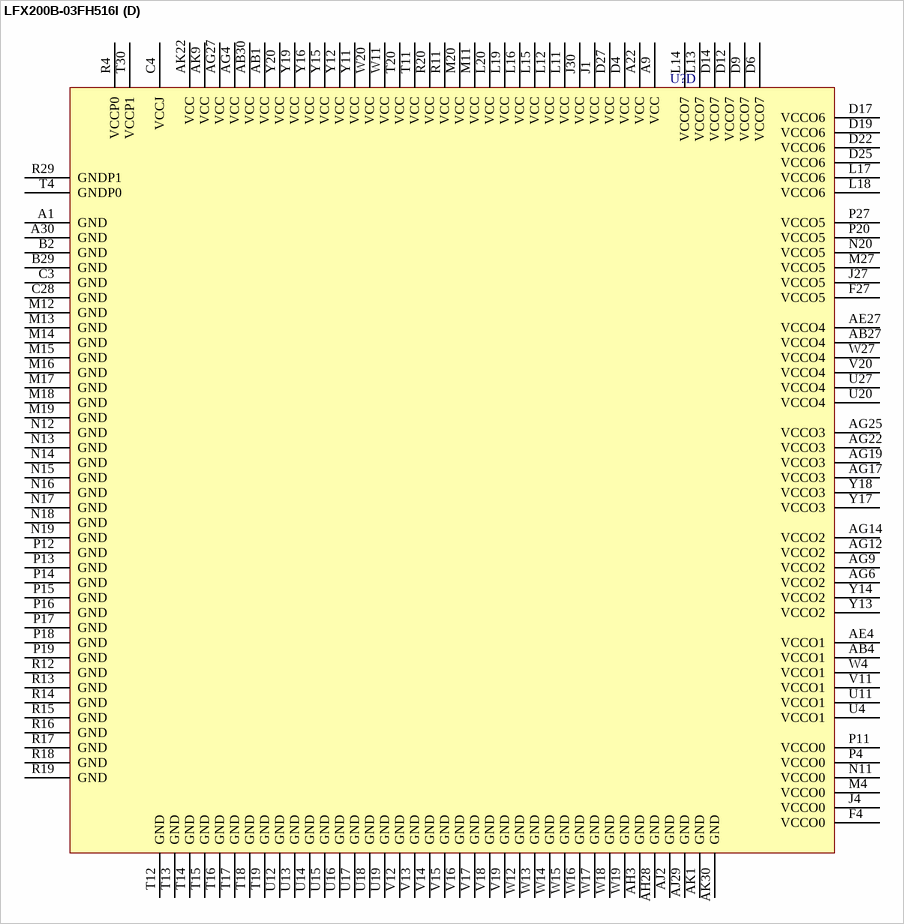
[diagram p71: symbol LFX200B-03FH516I]

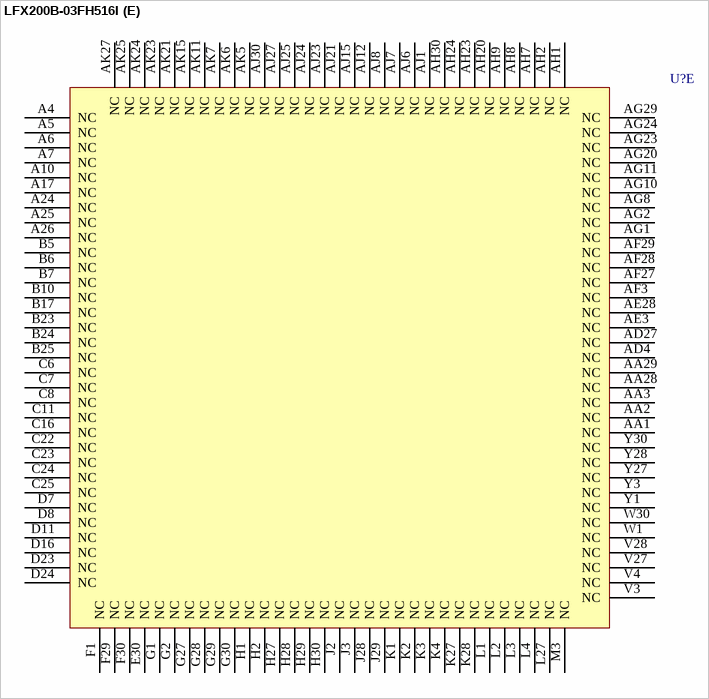
[diagram p72: symbol LFX200B-03FH516I]

## LFX200B-03FH516I
designator U?
LFX200 Non-Volatile Infinitely-Reconfigurable: 2.5/3.3V FPGA, 208 User I/Os, 516-Ball fpBGA, Speed Grade 3, Industrial Grade; Note: All GND pins must be electrically connected at the board level.; DoNotConnect: NC pins to any active signals, VCC or GND.; Published: 17-Dec-2003; LatestRevisionDate: 13-Apr-2006; LatestRevisionNote: IPC-7351 Footprint Added.; DatasheetVersion: xpga_07, Sep-2003; PackageVersion: pkg_32, Aug-2005; PackageReference: fpBGA516; Publisher: Altium Limited; PackageDescription: 516-Ball Fine Pitch Ball Grid Array (fpBGA516); ComponentLink1Description: Manufacturer Link; ComponentLink1URL: http://www.latticesemi.com/products/fpga/xpga/index.cfm; ComponentLink2Description: Datasheet; ComponentLink2URL: http://www.latticesemi.com/account/_download.cfm?AMID=5010; ComponentLink3Description: Lattice Login; ComponentLink3URL: http://www.latticesemi.com/account/login.cfm
footprint fpBGA516 (BGA, 516-Leads, Body 31x31mm, Pitch 1mm)
3D model LFX200-fpBGA516 (516-Ball Fine Pitch Ball Grid Array (fpBGA516))
part A pins: AA4 BK1_IO13, PLL_RST3/19N (io), AB2 BK1_IO10, HSI1A_SOUTP/18P (io), AB3 BK1_IO12, PLL_RST2/19P (io), AC1 BK1_IO14, HSI1A_SINP/20P (io), AC2 BK1_IO11, HSI1A_SOUTN/18N (io), AC3 BK1_IO18, HSI1B_SOUTP/22P (io), AC4 BK1_IO19, HSI1B_SOUTN/22N (io), AD1 BK1_IO15, HSI1A_SINN/20N (io), AD2 BK1_IO20/23P (io), AD3 BK1_IO21/23N (io), AE1 BK1_IO16, VREF1/21P (io), AE2 BK1_IO22, HSI1B_SINP/24P (io), AF1 BK1_IO17/21N (io), AF2 BK1_IO23, HSI1B_SINN/24N (io), AF4 BK1_IO25/25N (io), AG3 BK1_IO24/25P (io), AG7 BK2_IO6/29P (io), AG13 BK2_IO16/34P (io), AG15 BK2_IO24/38P (io), AG16 BK3_IO3/40N (io), AG18 BK3_IO9/43N (io), AG21 BK3_IO17/47N (io), AG26 BK3_IO24/51P (io), AH4 BK2_IO0/26P (io), AH5 BK2_IO3/27N (io), AH6 BK2_IO7/29N (io), AH10 BK2_IO10/31P (io), AH11 BK2_IO11/31N (io), AH12 BK2_IO14/33P (io), AH13 BK2_IO17/34N (io), AH14 BK2_IO21/36N (io), AH15 BK2_IO25/38N (io), AH16 BK3_IO2/40P (io), AH17 BK3_IO6/42P (io), AH18 BK3_IO8/43P (io), AH19 BK3_IO13/45N (io), AH21 BK3_IO16, VREF3/47P (io), AH22 BK3_IO19/48N (io), AH25 BK3_IO21/49N (io), AH26 BK3_IO23/50N (io), AH27 BK3_IO25/51N (io), AJ4 BK2_IO2/27P (io), AJ5 BK2_IO5/28N (io), AJ9 BK2_IO9, VREF2/30N (io), AJ10 BK2_IO12/32P (io), AJ11 BK2_IO15/33N (io), AJ13 BK2_IO18/35P (io), AJ14 BK2_IO22/37P (io), AJ16 BK3_IO1/39N (io), AJ17 BK3_IO5/41N (io), AJ18 BK3_IO7/42N (io), AJ19 BK3_IO12/45P (io), AJ20 BK3_IO15/46N (io), AJ22 BK3_IO18/48P (io), AJ26 BK3_IO22/50P (io), AK3 BK2_IO1/26N (io), AK4 BK2_IO4/28P (io), AK8 BK2_IO8/30P (io), AK10 BK2_IO13/32N (io), AK12 BK2_IO19/35N (io), AK13 BK2_IO20/36P (io), AK14 BK2_IO23/37N (io), AK16 BK3_IO0/39P (io), AK17 BK3_IO4/41P (io), AK18 BK3_IO10/44P (io), AK19 BK3_IO11/44N (io), AK20 BK3_IO14/46P (io), AK26 BK3_IO20/49P (io), B1 BK0_IO5/2N (io), C1 BK0_IO8/4P (io), C2 BK0_IO4/2P (io), D1 BK0_IO12/6P (io), D2 BK0_IO9, VREF0/4N (io), D3 BK0_IO1/0N (io), E1 BK0_IO13/6N (io), E2 BK0_IO14, HSI0B_SINP/7P (io), E3 BK0_IO2, HSI0A_SOUTP/1P (io), E4 BK0_IO0/0P (io), F2 BK0_IO15, HSI0B_SINN/7N (io), F3 BK0_IO3, HSI0A_SOUTN/1N (io), G3 BK0_IO7, HSI0A_SINN/3N (io), G4 BK0_IO6, HSI0A_SINP/3P (io), H3 BK0_IO11, HSI0B_SOUTN/5N (io), H4 BK0_IO10, HSI0B_SOUTP/5P (io), M1 BK0_IO17/8N (io), M2 BK0_IO16/8P (io), N1 BK0_IO21, PLL_FBK1/10N (io), N2 BK0_IO20/10P (io), N3 BK0_IO18, PLL_FBK0/9P (io), N4 BK0_IO19, PLL_RST1/9N (io), P1 BK0_IO22, PLL_RST0/11P (io), P2 BK0_IO25, CLK_OUT1/12N (io), P3 BK0_IO24, CLK_OUT0/12P (io), R1 BK0_IO23/11N (io), T1 BK1_IO0, CLK_OUT2/13P (io), U1 BK1_IO1, CLK_OUT3/13N (io), U2 BK1_IO2, SS_CLKOUT0P/14P (io), U3 BK1_IO3, SS_CLKOUT0N/14N (io), V1 BK1_IO4, PLL_FBK2/15P (io), V2 BK1_IO5, PLL_FBK3/15N (io), W2 BK1_IO6, SS_CLKIN0P/16P (io), W3 BK1_IO7, SS_CLKIN0N/16N (io), Y2 BK1_IO8/17P (io), Y4 BK1_IO9/17N (io)
part B pins: A2 BK7_IO25/103N (io), A3 BK7_IO24/103P (io), A8 BK7_IO20/101P (io), A11 BK7_IO14/98P (io), A12 BK7_IO13/97N (io), A13 BK7_IO7/94N (io), A14 BK7_IO4/93P (io), A15 BK7_IO0/91P (io), A16 BK6_IO25/90N (io), A18 BK6_IO19, DATA0/87N (io), A19 BK6_IO18, DATA1/87P (io), A20 BK6_IO15, DATA2/85N (io), A21 BK6_IO11, DATA4/83N (io), A23 BK6_IO7, DATA6/81N (io), A27 BK6_IO3/79N (io), AA27 BK4_IO12, PLL_RST4/58P (io), AA30 BK4_IO17/60N (io), AB28 BK4_IO11, HSI2B_SINN/57N (io), AB29 BK4_IO13, PLL_RST5/58N (io), AC27 BK4_IO5/54N (io), AC28 BK4_IO10, HSI2B_SINP/57P (io), AC29 BK4_IO14, HSI2B_SOUTP/59P (io), AC30 BK4_IO15, HSI2B_SOUTN/59N (io), AD28 BK4_IO4/54P (io), AD29 BK4_IO8/56P (io), AD30 BK4_IO9, VREF4/56N (io), AE29 BK4_IO6, HSI2A_SOUTP/55P (io), AE30 BK4_IO7, HSI2A_SOUTN/55N (io), AF30 BK4_IO3, HSI2A_SINN/53N (io), AG28 BK4_IO1/52N (io), AG30 BK4_IO2, HSI2A_SINP/53P (io), AH29 BK4_IO0/52P (io), B4 BK7_IO22/102P (io), B8 BK7_IO21/101N (io), B9 BK7_IO18/100P (io), B11 BK7_IO15/98N (io), B12 BK7_IO11/96N (io), B13 BK7_IO8/95P (io), B14 BK7_IO5/93N (io), B15 BK7_IO1/91N (io), B16 BK6_IO24/90P (io), B18 BK6_IO22/89P (io), B19 BK6_IO17/86N (io), B20 BK6_IO14, DATA3/85P (io), B21 BK6_IO10, DATA5/83P (io), B22 BK6_IO6, DATA7/81P (io), B26 BK6_IO5, Read/80N (io), B27 BK6_IO2/79P (io), B30 BK5_IO25/77N (io), C5 BK7_IO23/102N (io), C9 BK7_IO19/100N (io), C10 BK7_IO16, VREF7/99P (io), C12 BK7_IO12/97P (io), C13 BK7_IO9/95N (io), C14 BK7_IO6/94P (io), C15 BK7_IO2/92P (io), C17 BK6_IO23/89N (io), C18 BK6_IO21/88N (io), C19 BK6_IO16/86P (io), C20 BK6_IO13/84N (io), C21 BK6_IO9, VREF6/82N (io), C26 BK6_IO4, CSb/80P (io), C27 BK6_IO1, CCLK/78N (io), C29 BK5_IO24/77P (io), C30 BK5_IO19, HSI3B_SINN/74N (io), D10 BK7_IO17/99N (io), D13 BK7_IO10/96P (io), D15 BK7_IO3/92N (io), D18 BK6_IO20/88P (io), D20 BK6_IO12/84P (io), D21 BK6_IO8/82P (io), D26 BK6_IO0, INITb/78P (io), D28 BK5_IO21/75N (io), D29 BK5_IO20/75P (io), D30 BK5_IO18, HSI3B_SINP/74P (io), E27 BK5_IO23, HSI3B_SOUTN/76N (io), E28 BK5_IO22, HSI3B_SOUTP/76P (io), E29 BK5_IO16, VREF5/73P (io), F28 BK5_IO17/73N (io), K29 BK5_IO15, HSI3A_SOUTN/72N (io), K30 BK5_IO14, HSI3A_SOUTP/72P (io), L28 BK5_IO13/71N (io), L29 BK5_IO11, HSI3A_SINN/70N (io), L30 BK5_IO10, HSI3A_SINP/70P (io), M28 BK5_IO12/71P (io), M29 BK5_IO9/69N (io), M30 BK5_IO8/69P (io), N27 BK5_IO7, PLL_FBK7/68N (io), N28 BK5_IO6, PLL_RST6/68P (io), N29 BK5_IO5/67N (io), N30 BK5_IO4, PLL_FBK6/67P (io), P28 BK5_IO3, PLL_RST7/66N (io), P29 BK5_IO2/66P (io), P30 BK5_IO1, CLK_OUT7/65N (io), R30 BK5_IO0, CLK_OUT6/65P (io), T27 BK4_IO25, CLK_OUT5/64N (io), U28 BK4_IO24, CLK_OUT4/64P (io), U29 BK4_IO23, SS_CLKOUT1N/63N (io), U30 BK4_IO22, SS_CLKOUT1P/63P (io), V29 BK4_IO20, PLL_FBK4/62P (io), V30 BK4_IO21, PLL_FBK5/62N (io), W28 BK4_IO18, SS_CLKIN1P/61P (io), W29 BK4_IO19, SS_CLKIN1N/61N (io), Y29 BK4_IO16/60P (io)
part C pins: A28 PROGRAMb (in), A29 CFG0 (in), AG5 TOE (in), AJ3 TMS (in), AJ28 DXP (out), AK2 TCK (in), AK28 GSR (in), AK29 DXN (out), B3 TDI (in), B28 DONE (io), D5 TDO (out), R2 GCLK0/LVDS Pair0P (in), R3 GCLK1/LVDS Pair0N (in), R27 GCLK7/LVDS Pair3N (in), R28 GCLK6/LVDS Pair3P (in), T2 GCLK3/LVDS Pair1N (in), T3 GCLK2/LVDS Pair1P (in), T28 GCLK4/LVDS Pair2P (in), T29 GCLK5/LVDS Pair2N (in)
part D pins: A1 GND (power), A9 VCC (power), A22 VCC (power), A30 GND (power), AB1 VCC (power), AB4 VCCO1 (power), AB27 VCCO4 (power), AB30 VCC (power), AE4 VCCO1 (power), AE27 VCCO4 (power), AG4 VCC (power), AG6 VCCO2 (power), AG9 VCCO2 (power), AG12 VCCO2 (power), AG14 VCCO2 (power), AG17 VCCO3 (power), AG19 VCCO3 (power), AG22 VCCO3 (power), AG25 VCCO3 (power), AG27 VCC (power), AH3 GND (power), AH28 GND (power), AJ2 GND (power), AJ29 GND (power), AK1 GND (power), AK9 VCC (power), AK22 VCC (power), AK30 GND (power), B2 GND (power), B29 GND (power), C3 GND (power), C4 VCCJ (power), C28 GND (power), D4 VCC (power), D6 VCCO7 (power), D9 VCCO7 (power), D12 VCCO7 (power), D14 VCCO7 (power), D17 VCCO6 (power), D19 VCCO6 (power), D22 VCCO6 (power), D25 VCCO6 (power), D27 VCC (power), F4 VCCO0 (power), F27 VCCO5 (power), J1 VCC (power), J4 VCCO0 (power), J27 VCCO5 (power), J30 VCC (power), L11 VCC (power), L12 VCC (power), L13 VCCO7 (power), L14 VCCO7 (power), L15 VCC (power), L16 VCC (power), L17 VCCO6 (power), L18 VCCO6 (power), L19 VCC (power), L20 VCC (power), M4 VCCO0 (power), M11 VCC (power), M12 GND (power), M13 GND (power), M14 GND (power), M15 GND (power), M16 GND (power), M17 GND (power), M18 GND (power), M19 GND (power), M20 VCC (power), M27 VCCO5 (power), N11 VCCO0 (power), N12 GND (power), N13 GND (power), N14 GND (power), N15 GND (power), N16 GND (power), N17 GND (power), N18 GND (power), N19 GND (power), N20 VCCO5 (power), P4 VCCO0 (power), P11 VCCO0 (power), P12 GND (power), P13 GND (power), P14 GND (power), P15 GND (power), P16 GND (power), P17 GND (power), P18 GND (power), P19 GND (power), P20 VCCO5 (power), P27 VCCO5 (power), R4 VCCP0 (power), R11 VCC (power), R12 GND (power), R13 GND (power), R14 GND (power), R15 GND (power), R16 GND (power), R17 GND (power), R18 GND (power), R19 GND (power), R20 VCC (power), R29 GNDP1 (power), T4 GNDP0 (power), T11 VCC (power), T12 GND (power), T13 GND (power), T14 GND (power), T15 GND (power), T16 GND (power), T17 GND (power), T18 GND (power), T19 GND (power), T20 VCC (power), T30 VCCP1 (power), U4 VCCO1 (power), U11 VCCO1 (power), U12 GND (power), U13 GND (power), U14 GND (power), U15 GND (power), U16 GND (power), U17 GND (power), U18 GND (power), U19 GND (power), U20 VCCO4 (power), U27 VCCO4 (power), V11 VCCO1 (power), V12 GND (power), V13 GND (power), V14 GND (power), V15 GND (power), V16 GND (power), V17 GND (power), V18 GND (power), V19 GND (power), V20 VCCO4 (power), W4 VCCO1 (power), W11 VCC (power), W12 GND (power), W13 GND (power), W14 GND (power), W15 GND (power), W16 GND (power), W17 GND (power), W18 GND (power), W19 GND (power), W20 VCC (power), W27 VCCO4 (power), Y11 VCC (power), Y12 VCC (power), Y13 VCCO2 (power), Y14 VCCO2 (power), Y15 VCC (power), Y16 VCC (power), Y17 VCCO3 (power), Y18 VCCO3 (power), Y19 VCC (power), Y20 VCC (power)
part E pins: A4 NC, A5 NC, A6 NC, A7 NC, A10 NC, A17 NC, A24 NC, A25 NC, A26 NC, AA1 NC, AA2 NC, AA3 NC, AA28 NC, AA29 NC, AD4 NC, AD27 NC, AE3 NC, AE28 NC, AF3 NC, AF27 NC, AF28 NC, AF29 NC, AG1 NC, AG2 NC, AG8 NC, AG10 NC, AG11 NC, AG20 NC, AG23 NC, AG24 NC, AG29 NC, AH1 NC, AH2 NC, AH7 NC, AH8 NC, AH9 NC, AH20 NC, AH23 NC, AH24 NC, AH30 NC, AJ1 NC, AJ6 NC, AJ7 NC, AJ8 NC, AJ12 NC, AJ15 NC, AJ21 NC, AJ23 NC, AJ24 NC, AJ25 NC, AJ27 NC, AJ30 NC, AK5 NC, AK6 NC, AK7 NC, AK11 NC, AK15 NC, AK21 NC, AK23 NC, AK24 NC, AK25 NC, AK27 NC, B5 NC, B6 NC, B7 NC, B10 NC, B17 NC, B23 NC, B24 NC, B25 NC, C6 NC, C7 NC, C8 NC, C11 NC, C16 NC, C22 NC, C23 NC, C24 NC, C25 NC, D7 NC, D8 NC, D11 NC, D16 NC, D23 NC, D24 NC, E30 NC, F1 NC, F29 NC, F30 NC, G1 NC, G2 NC, G27 NC, G28 NC, G29 NC, G30 NC, H1 NC, H2 NC, H27 NC, H28 NC, H29 NC, H30 NC, J2 NC, J3 NC, J28 NC, J29 NC, K1 NC, K2 NC, K3 NC, K4 NC, K27 NC, K28 NC, L1 NC, L2 NC, L3 NC, L4 NC, L27 NC, M3 NC, V3 NC, V4 NC, V27 NC, V28 NC, W1 NC, W30 NC, Y1 NC, Y3 NC, Y27 NC, Y28 NC, Y30 NC
part A text: BANK 3; BANK 0; BANK 2; BANK 1
part B text: BANK 7; BANK 4; BANK 6; BANK 5

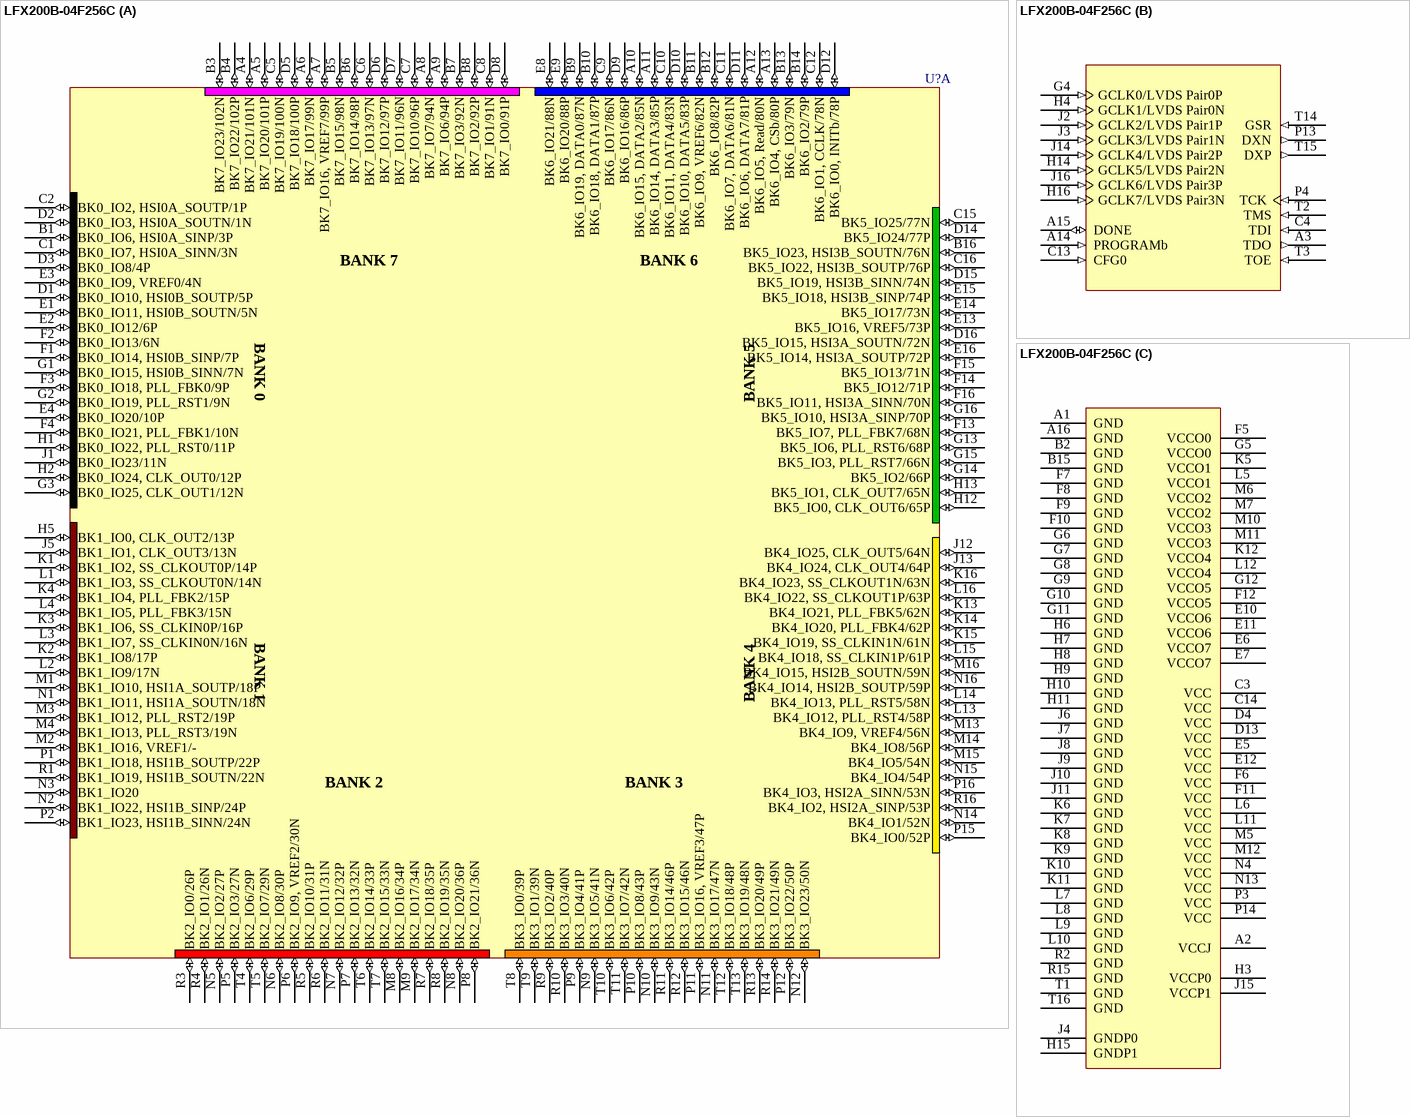
[diagram p73: symbol LFX200B-04F256C]

## LFX200B-04F256C
designator U?
LFX200 Non-Volatile Infinitely-Reconfigurable: 2.5/3.3V FPGA, 160 User I/Os, 256-Ball fpBGA, Speed Grade 4, Commercial Grade; Note: All GND pins must be electrically connected at the board level.; Note: Pins M2 and N3 are not available for differential pairs.; Published: 17-Dec-2003; LatestRevisionDate: 13-Apr-2006; LatestRevisionNote: IPC-7351 Footprint Added.; DatasheetVersion: xpga_09, Jul-2004; PackageVersion: pkg_32, Aug-2005; PackageReference: fpBGA256; Publisher: Altium Limited; PackageDescription: 256-Ball Fine Pitch Ball Grid Array (fpBGA256); Code_IPC: BGA100P16X16-256; ComponentLink1Description: Manufacturer Link; ComponentLink1URL: http://www.latticesemi.com/products/fpga/xpga/index.cfm; ComponentLink2Description: Datasheet; ComponentLink2URL: http://www.latticesemi.com/account/_download.cfm?AMID=5010; ComponentLink3Description: Lattice Login; ComponentLink3URL: http://www.latticesemi.com/account/login.cfm
footprint fpBGA256 (BGA, 256-Leads, Body 17x17mm, Pitch 1mm)
3D model LFX200-fpBGA256 (256-Ball Fine Pitch Ball Grid Array (fpBGA256))
part A pins: A4 BK7_IO21/101N (io), A5 BK7_IO20/101P (io), A6 BK7_IO17/99N (io), A7 BK7_IO16, VREF7/99P (io), A8 BK7_IO7/94N (io), A9 BK7_IO6/94P (io), A10 BK6_IO15, DATA2/85N (io), A11 BK6_IO14, DATA3/85P (io), A12 BK6_IO5, Read/80N (io), A13 BK6_IO4, CSb/80P (io), B1 BK0_IO6, HSI0A_SINP/3P (io), B3 BK7_IO23/102N (io), B4 BK7_IO22/102P (io), B5 BK7_IO15/98N (io), B6 BK7_IO14/98P (io), B7 BK7_IO3/92N (io), B8 BK7_IO2/92P (io), B9 BK6_IO19, DATA0/87N (io), B10 BK6_IO18, DATA1/87P (io), B11 BK6_IO9, VREF6/82N (io), B12 BK6_IO8/82P (io), B13 BK6_IO3/79N (io), B14 BK6_IO2/79P (io), B16 BK5_IO23, HSI3B_SOUTN/76N (io), C1 BK0_IO7, HSI0A_SINN/3N (io), C2 BK0_IO2, HSI0A_SOUTP/1P (io), C5 BK7_IO19/100N (io), C6 BK7_IO13/97N (io), C7 BK7_IO10/96P (io), C8 BK7_IO1/91N (io), C9 BK6_IO17/86N (io), C10 BK6_IO11, DATA4/83N (io), C11 BK6_IO7, DATA6/81N (io), C12 BK6_IO1, CCLK/78N (io), C15 BK5_IO25/77N (io), C16 BK5_IO22, HSI3B_SOUTP/76P (io), D1 BK0_IO10, HSI0B_SOUTP/5P (io), D2 BK0_IO3, HSI0A_SOUTN/1N (io), D3 BK0_IO8/4P (io), D5 BK7_IO18/100P (io), D6 BK7_IO12/97P (io), D7 BK7_IO11/96N (io), D8 BK7_IO0/91P (io), D9 BK6_IO16/86P (io), D10 BK6_IO10, DATA5/83P (io), D11 BK6_IO6, DATA7/81P (io), D12 BK6_IO0, INITb/78P (io), D14 BK5_IO24/77P (io), D15 BK5_IO19, HSI3B_SINN/74N (io), D16 BK5_IO15, HSI3A_SOUTN/72N (io), E1 BK0_IO11, HSI0B_SOUTN/5N (io), E2 BK0_IO12/6P (io), E3 BK0_IO9, VREF0/4N (io), E4 BK0_IO20/10P (io), E8 BK6_IO21/88N (io), E9 BK6_IO20/88P (io), E13 BK5_IO16, VREF5/73P (io), E14 BK5_IO17/73N (io), E15 BK5_IO18, HSI3B_SINP/74P (io), E16 BK5_IO14, HSI3A_SOUTP/72P (io), F1 BK0_IO14, HSI0B_SINP/7P (io), F2 BK0_IO13/6N (io), F3 BK0_IO18, PLL_FBK0/9P (io), F4 BK0_IO21, PLL_FBK1/10N (io), F13 BK5_IO7, PLL_FBK7/68N (io), F14 BK5_IO12/71P (io), F15 BK5_IO13/71N (io), F16 BK5_IO11, HSI3A_SINN/70N (io), G1 BK0_IO15, HSI0B_SINN/7N (io), G2 BK0_IO19, PLL_RST1/9N (io), G3 BK0_IO25, CLK_OUT1/12N (io), G13 BK5_IO6, PLL_RST6/68P (io), G14 BK5_IO2/66P (io), G15 BK5_IO3, PLL_RST7/66N (io), G16 BK5_IO10, HSI3A_SINP/70P (io), H1 BK0_IO22, PLL_RST0/11P (io), H2 BK0_IO24, CLK_OUT0/12P (io), H5 BK1_IO0, CLK_OUT2/13P (io), H12 BK5_IO0, CLK_OUT6/65P (io), H13 BK5_IO1, CLK_OUT7/65N (io), J1 BK0_IO23/11N (io), J5 BK1_IO1, CLK_OUT3/13N (io), J12 BK4_IO25, CLK_OUT5/64N (io), J13 BK4_IO24, CLK_OUT4/64P (io), K1 BK1_IO2, SS_CLKOUT0P/14P (io), K2 BK1_IO8/17P (io), K3 BK1_IO6, SS_CLKIN0P/16P (io), K4 BK1_IO4, PLL_FBK2/15P (io), K13 BK4_IO21, PLL_FBK5/62N (io), K14 BK4_IO20, PLL_FBK4/62P (io), K15 BK4_IO19, SS_CLKIN1N/61N (io), K16 BK4_IO23, SS_CLKOUT1N/63N (io), L1 BK1_IO3, SS_CLKOUT0N/14N (io), L2 BK1_IO9/17N (io), L3 BK1_IO7, SS_CLKIN0N/16N (io), L4 BK1_IO5, PLL_FBK3/15N (io), L13 BK4_IO12, PLL_RST4/58P (io), L14 BK4_IO13, PLL_RST5/58N (io), L15 BK4_IO18, SS_CLKIN1P/61P (io), L16 BK4_IO22, SS_CLKOUT1P/63P (io), M1 BK1_IO10, HSI1A_SOUTP/18P (io), M2 BK1_IO16, VREF1/- (io), M3 BK1_IO12, PLL_RST2/19P (io), M4 BK1_IO13, PLL_RST3/19N (io), M8 BK2_IO16/34P (io), M9 BK2_IO17/34N (io), M13 BK4_IO9, VREF4/56N (io), M14 BK4_IO8/56P (io), M15 BK4_IO5/54N (io), M16 BK4_IO15, HSI2B_SOUTN/59N (io), N1 BK1_IO11, HSI1A_SOUTN/18N (io), N2 BK1_IO22, HSI1B_SINP/24P (io), N3 BK1_IO20 (io), N5 BK2_IO2/27P (io), N6 BK2_IO8/30P (io), N7 BK2_IO12/32P (io), N8 BK2_IO20/36P (io), N9 BK3_IO5/41N (io), N10 BK3_IO9/43N (io), N11 BK3_IO17/47N (io), N12 BK3_IO23/50N (io), N14 BK4_IO1/52N (io), N15 BK4_IO4/54P (io), N16 BK4_IO14, HSI2B_SOUTP/59P (io), P1 BK1_IO18, HSI1B_SOUTP/22P (io), P2 BK1_IO23, HSI1B_SINN/24N (io), P5 BK2_IO3/27N (io), P6 BK2_IO9, VREF2/30N (io), P7 BK2_IO13/32N (io), P8 BK2_IO21/36N (io), P9 BK3_IO4/41P (io), P10 BK3_IO8/43P (io), P11 BK3_IO16, VREF3/47P (io), P12 BK3_IO22/50P (io), P15 BK4_IO0/52P (io), P16 BK4_IO3, HSI2A_SINN/53N (io), R1 BK1_IO19, HSI1B_SOUTN/22N (io), R3 BK2_IO0/26P (io), R4 BK2_IO1/26N (io), R5 BK2_IO10/31P (io), R6 BK2_IO11/31N (io), R7 BK2_IO18/35P (io), R8 BK2_IO19/35N (io), R9 BK3_IO2/40P (io), R10 BK3_IO3/40N (io), R11 BK3_IO14/46P (io), R12 BK3_IO15/46N (io), R13 BK3_IO20/49P (io), R14 BK3_IO21/49N (io), R16 BK4_IO2, HSI2A_SINP/53P (io), T4 BK2_IO6/29P (io), T5 BK2_IO7/29N (io), T6 BK2_IO14/33P (io), T7 BK2_IO15/33N (io), T8 BK3_IO0/39P (io), T9 BK3_IO1/39N (io), T10 BK3_IO6/42P (io), T11 BK3_IO7/42N (io), T12 BK3_IO18/48P (io), T13 BK3_IO19/48N (io)
part B pins: A3 TDO (out), A14 PROGRAMb (in), A15 DONE (io), C4 TDI (in), C13 CFG0 (in), G4 GCLK0/LVDS Pair0P (in), H4 GCLK1/LVDS Pair0N (in), H14 GCLK5/LVDS Pair2N (in), H16 GCLK7/LVDS Pair3N (in), J2 GCLK2/LVDS Pair1P (in), J3 GCLK3/LVDS Pair1N (in), J14 GCLK4/LVDS Pair2P (in), J16 GCLK6/LVDS Pair3P (in), P4 TCK (in), P13 DXN (out), T2 TMS (in), T3 TOE (in), T14 GSR (in), T15 DXP (out)
part C pins: A1 GND (power), A2 VCCJ (power), A16 GND (power), B2 GND (power), B15 GND (power), C3 VCC (power), C14 VCC (power), D4 VCC (power), D13 VCC (power), E5 VCC (power), E6 VCCO7 (power), E7 VCCO7 (power), E10 VCCO6 (power), E11 VCCO6 (power), E12 VCC (power), F5 VCCO0 (power), F6 VCC (power), F7 GND (power), F8 GND (power), F9 GND (power), F10 GND (power), F11 VCC (power), F12 VCCO5 (power), G5 VCCO0 (power), G6 GND (power), G7 GND (power), G8 GND (power), G9 GND (power), G10 GND (power), G11 GND (power), G12 VCCO5 (power), H3 VCCP0 (power), H6 GND (power), H7 GND (power), H8 GND (power), H9 GND (power), H10 GND (power), H11 GND (power), H15 GNDP1 (power), J4 GNDP0 (power), J6 GND (power), J7 GND (power), J8 GND (power), J9 GND (power), J10 GND (power), J11 GND (power), J15 VCCP1 (power), K5 VCCO1 (power), K6 GND (power), K7 GND (power), K8 GND (power), K9 GND (power), K10 GND (power), K11 GND (power), K12 VCCO4 (power), L5 VCCO1 (power), L6 VCC (power), L7 GND (power), L8 GND (power), L9 GND (power), L10 GND (power), L11 VCC (power), L12 VCCO4 (power), M5 VCC (power), M6 VCCO2 (power), M7 VCCO2 (power), M10 VCCO3 (power), M11 VCCO3 (power), M12 VCC (power), N4 VCC (power), N13 VCC (power), P3 VCC (power), P14 VCC (power), R2 GND (power), R15 GND (power), T1 GND (power), T16 GND (power)
part A text: BANK 7; BANK 6; BANK 0; BANK 5; BANK 1; BANK 4; BANK 2; BANK 3

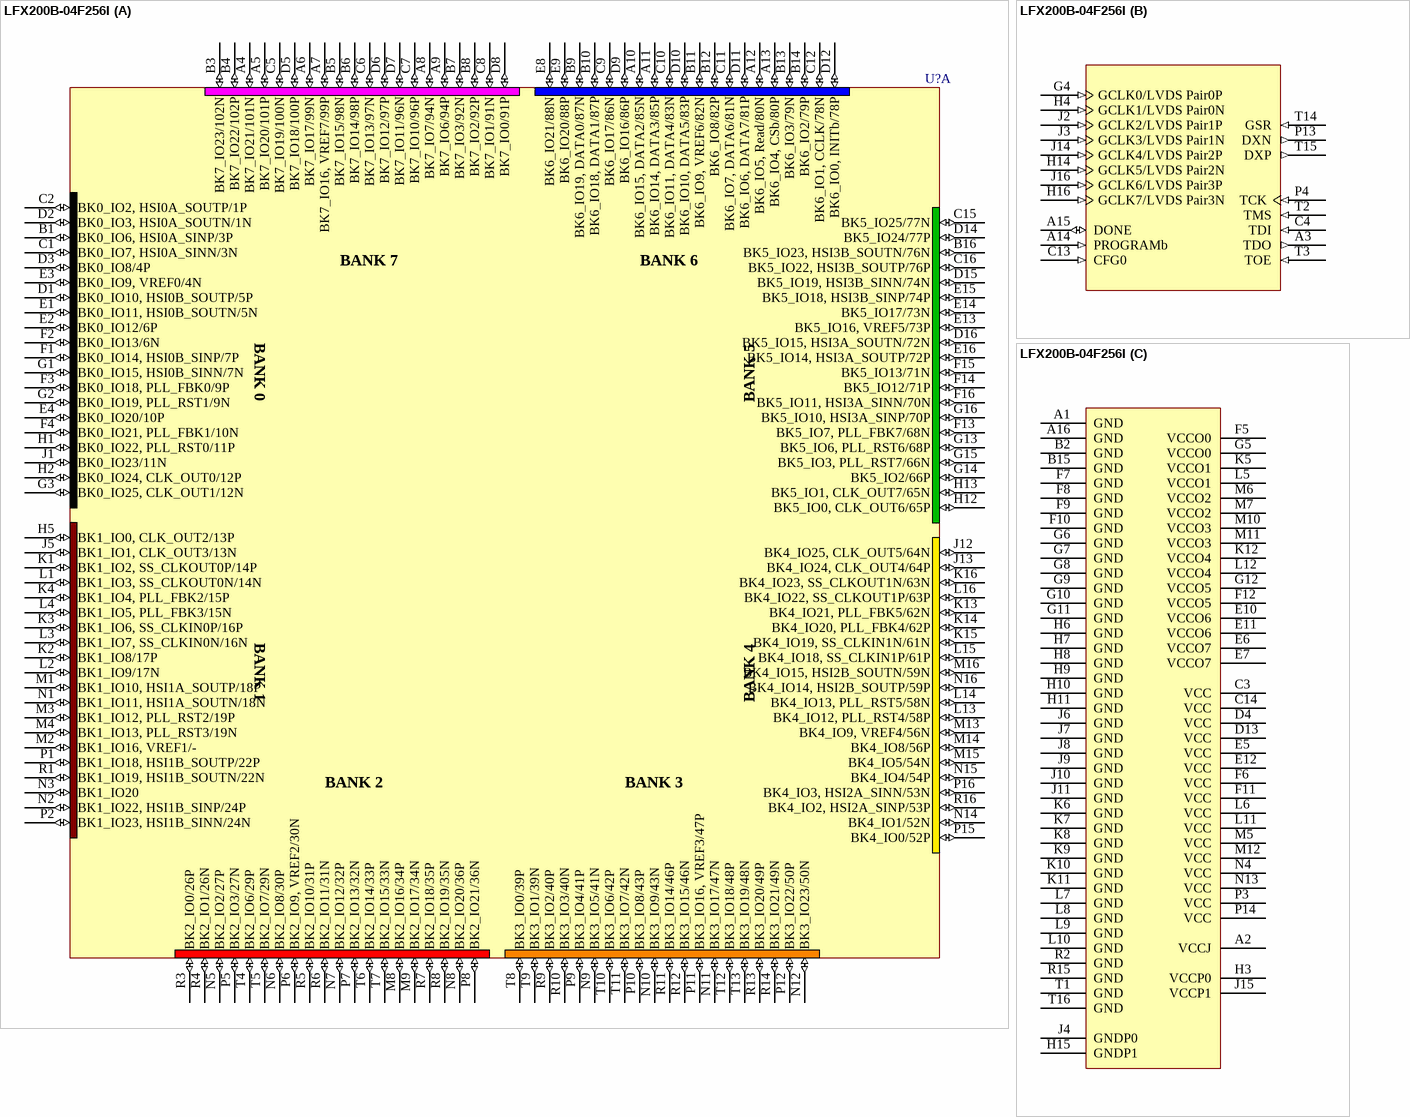
[diagram p74: symbol LFX200B-04F256I]